# Altium schematic symbol library MCU_ST_STM32G4.SchLib: 165 symbols (part 2 of 4)
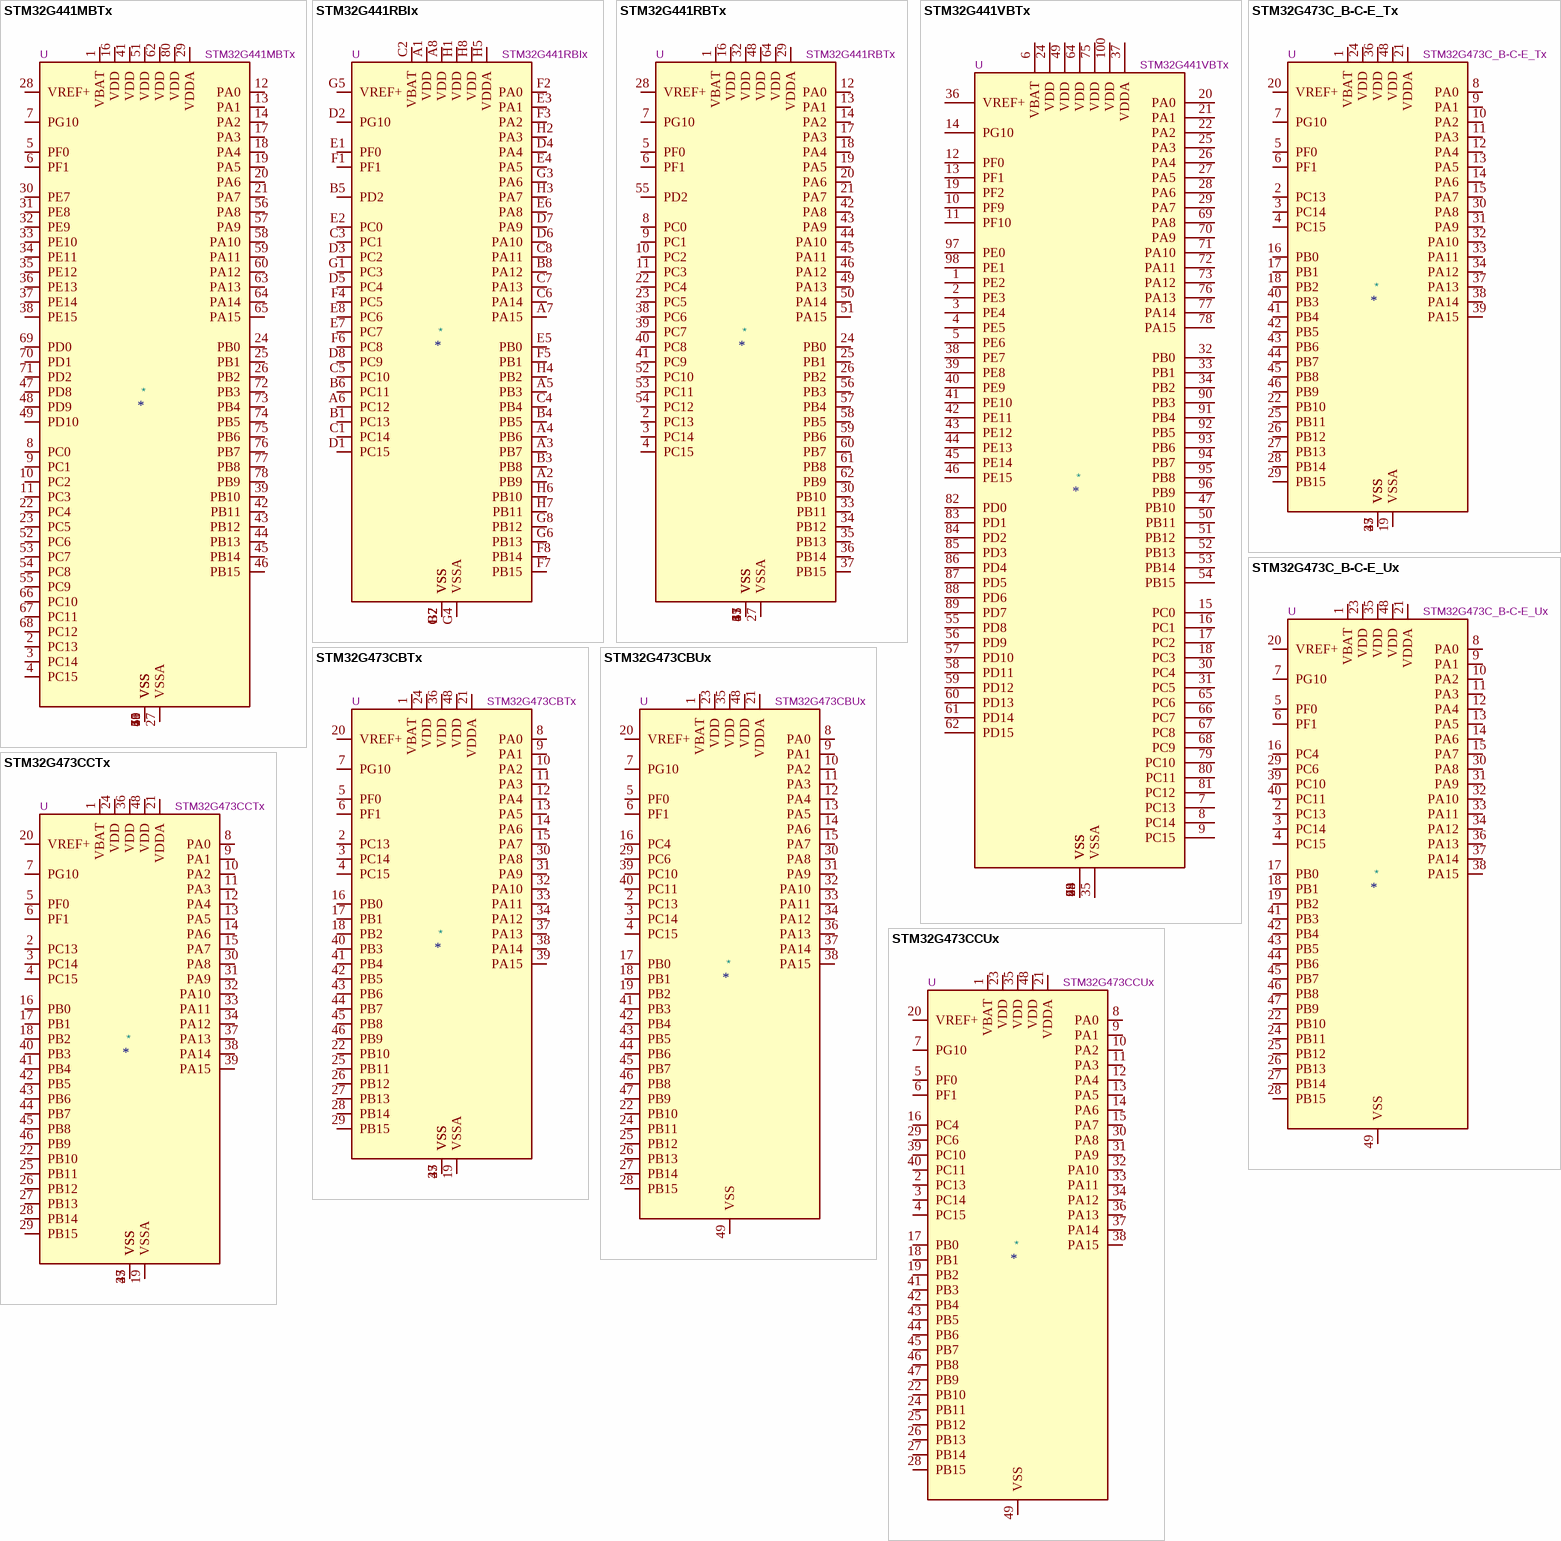
[diagram p23: symbols STM32G441MBTx to STM32G473CCUx]

## STM32G441RBIx
designator *  value STM32G441RBIx  Reference: U
STMicroelectronics Arm Cortex-M4 MCU, 128KB flash, 32KB RAM, 170 MHz, 1.71-3.6V, 52 GPIO, UFBGA64; ki_keywords: Arm Cortex-M4 STM32G4 STM32G4x1; ki_fp_filters: UFBGA*5x5mm*Layout8x8*P0.5mm*; Footprint: Package_BGA:UFBGA-64_5x5mm_Layout8x8_P0.5mm; Datasheet: https://www.st.com/resource/en/datasheet/stm32g441rb.pdf; Description_: STMicroelectronics Arm Cortex-M4 MCU, 128KB flash, 32KB RAM, 170 MHz, 1.71-3.6V, 52 GPIO, UFBGA64
pins: A1 VDD, A2 PB9, A3 PB7, A4 PB6, A5 PB3, A6 PC12, A7 PA15, A8 VDD, B1 PC13, B2 VSS, B3 PB8, B4 PB5, B5 PD2, B6 PC11, B7 VSS, B8 PA12, C1 PC14, C2 VBAT, C3 PC1, C4 PB4, C5 PC10, C6 PA14, C7 PA13, C8 PA11, D1 PC15, D2 PG10, D3 PC2, D4 PA4, D5 PC4, D6 PA10, D7 PA9, D8 PC9, E1 PF0, E2 PC0, E3 PA1, E4 PA5, E5 PB0, E6 PA8, E7 PC7, E8 PC6, F1 PF1, F2 PA0, F3 PA2, F4 PC5, F5 PB1, F6 PC8, F7 PB15, F8 PB14, G1 PC3, G2 VSS, G3 PA6, G4 VSSA, G5 VREF+, G6 PB13, G7 VSS, G8 PB12, H1 VDD, H2 PA3, H3 PA7, H4 PB2, H5 VDDA, H6 PB10, H7 PB11, H8 VDD

## STM32G441RBTx
designator *  value STM32G441RBTx  Reference: U
STMicroelectronics Arm Cortex-M4 MCU, 128KB flash, 32KB RAM, 170 MHz, 1.71-3.6V, 52 GPIO, LQFP64; ki_keywords: Arm Cortex-M4 STM32G4 STM32G4x1; ki_fp_filters: LQFP*10x10mm*P0.5mm*; Footprint: Package_QFP:LQFP-64_10x10mm_P0.5mm; Datasheet: https://www.st.com/resource/en/datasheet/stm32g441rb.pdf; Description_: STMicroelectronics Arm Cortex-M4 MCU, 128KB flash, 32KB RAM, 170 MHz, 1.71-3.6V, 52 GPIO, LQFP64
pins: 1 VBAT, 2 PC13, 3 PC14, 4 PC15, 5 PF0, 6 PF1, 7 PG10, 8 PC0, 9 PC1, 10 PC2, 11 PC3, 12 PA0, 13 PA1, 14 PA2, 15 VSS, 16 VDD, 17 PA3, 18 PA4, 19 PA5, 20 PA6, 21 PA7, 22 PC4, 23 PC5, 24 PB0, 25 PB1, 26 PB2, 27 VSSA, 28 VREF+, 29 VDDA, 30 PB10, 31 VSS, 32 VDD, 33 PB11, 34 PB12, 35 PB13, 36 PB14, 37 PB15, 38 PC6, 39 PC7, 40 PC8, 41 PC9, 42 PA8, 43 PA9, 44 PA10, 45 PA11, 46 PA12, 47 VSS, 48 VDD, 49 PA13, 50 PA14, 51 PA15, 52 PC10, 53 PC11, 54 PC12, 55 PD2, 56 PB3, 57 PB4, 58 PB5, 59 PB6, 60 PB7, 61 PB8, 62 PB9, 63 VSS, 64 VDD

## STM32G441VBTx
designator *  value STM32G441VBTx  Reference: U
STMicroelectronics Arm Cortex-M4 MCU, 128KB flash, 32KB RAM, 170 MHz, 1.71-3.6V, 86 GPIO, LQFP100; ki_keywords: Arm Cortex-M4 STM32G4 STM32G4x1; ki_fp_filters: LQFP*14x14mm*P0.5mm*; Footprint: Package_QFP:LQFP-100_14x14mm_P0.5mm; Datasheet: https://www.st.com/resource/en/datasheet/stm32g441vb.pdf; Description_: STMicroelectronics Arm Cortex-M4 MCU, 128KB flash, 32KB RAM, 170 MHz, 1.71-3.6V, 86 GPIO, LQFP100
pins: 1 PE2, 2 PE3, 3 PE4, 4 PE5, 5 PE6, 6 VBAT, 7 PC13, 8 PC14, 9 PC15, 10 PF9, 11 PF10, 12 PF0, 13 PF1, 14 PG10, 15 PC0, 16 PC1, 17 PC2, 18 PC3, 19 PF2, 20 PA0, 21 PA1, 22 PA2, 23 VSS, 24 VDD, 25 PA3, 26 PA4, 27 PA5, 28 PA6, 29 PA7, 30 PC4, 31 PC5, 32 PB0, 33 PB1, 34 PB2, 35 VSSA, 36 VREF+, 37 VDDA, 38 PE7, 39 PE8, 40 PE9, 41 PE10, 42 PE11, 43 PE12, 44 PE13, 45 PE14, 46 PE15, 47 PB10, 48 VSS, 49 VDD, 50 PB11, 51 PB12, 52 PB13, 53 PB14, 54 PB15, 55 PD8, 56 PD9, 57 PD10, 58 PD11, 59 PD12, 60 PD13, 61 PD14, 62 PD15, 63 VSS, 64 VDD, 65 PC6, 66 PC7, 67 PC8, 68 PC9, 69 PA8, 70 PA9, 71 PA10, 72 PA11, 73 PA12, 74 VSS, 75 VDD, 76 PA13, 77 PA14, 78 PA15, 79 PC10, 80 PC11, 81 PC12, 82 PD0, 83 PD1, 84 PD2, 85 PD3, 86 PD4, 87 PD5, 88 PD6, 89 PD7, 90 PB3, 91 PB4, 92 PB5, 93 PB6, 94 PB7, 95 PB8, 96 PB9, 97 PE0, 98 PE1, 99 VSS, 100 VDD

## STM32G473C_B-C-E_Tx
designator *  value STM32G473C_B-C-E_Tx  Reference: U
STMicroelectronics Arm Cortex-M4 MCU, 128-512KB flash, 128KB RAM, 170 MHz, 1.71-3.6V, 38 GPIO, LQFP48; ki_keywords: Arm Cortex-M4 STM32G4 STM32G4x3; ki_fp_filters: LQFP*7x7mm*P0.5mm*; Footprint: Package_QFP:LQFP-48_7x7mm_P0.5mm; Datasheet: https://www.st.com/resource/en/datasheet/stm32g473cb.pdf; Description_: STMicroelectronics Arm Cortex-M4 MCU, 128-512KB flash, 128KB RAM, 170 MHz, 1.71-3.6V, 38 GPIO, LQFP48
pins: 1 VBAT, 2 PC13, 3 PC14, 4 PC15, 5 PF0, 6 PF1, 7 PG10, 8 PA0, 9 PA1, 10 PA2, 11 PA3, 12 PA4, 13 PA5, 14 PA6, 15 PA7, 16 PB0, 17 PB1, 18 PB2, 19 VSSA, 20 VREF+, 21 VDDA, 22 PB10, 23 VSS, 24 VDD, 25 PB11, 26 PB12, 27 PB13, 28 PB14, 29 PB15, 30 PA8, 31 PA9, 32 PA10, 33 PA11, 34 PA12, 35 VSS, 36 VDD, 37 PA13, 38 PA14, 39 PA15, 40 PB3, 41 PB4, 42 PB5, 43 PB6, 44 PB7, 45 PB8, 46 PB9, 47 VSS, 48 VDD

## STM32G473C_B-C-E_Ux
designator *  value STM32G473C_B-C-E_Ux  Reference: U
STMicroelectronics Arm Cortex-M4 MCU, 128-512KB flash, 128KB RAM, 170 MHz, 1.71-3.6V, 42 GPIO, UFQFPN48; ki_keywords: Arm Cortex-M4 STM32G4 STM32G4x3; ki_fp_filters: QFN*1EP*7x7mm*P0.5mm*; Footprint: Package_DFN_QFN:QFN-48-1EP_7x7mm_P0.5mm_EP5.6x5.6mm; Datasheet: https://www.st.com/resource/en/datasheet/stm32g473cb.pdf; Description_: STMicroelectronics Arm Cortex-M4 MCU, 128-512KB flash, 128KB RAM, 170 MHz, 1.71-3.6V, 42 GPIO, UFQFPN48
pins: 1 VBAT, 2 PC13, 3 PC14, 4 PC15, 5 PF0, 6 PF1, 7 PG10, 8 PA0, 9 PA1, 10 PA2, 11 PA3, 12 PA4, 13 PA5, 14 PA6, 15 PA7, 16 PC4, 17 PB0, 18 PB1, 19 PB2, 20 VREF+, 21 VDDA, 22 PB10, 23 VDD, 24 PB11, 25 PB12, 26 PB13, 27 PB14, 28 PB15, 29 PC6, 30 PA8, 31 PA9, 32 PA10, 33 PA11, 34 PA12, 35 VDD, 36 PA13, 37 PA14, 38 PA15, 39 PC10, 40 PC11, 41 PB3, 42 PB4, 43 PB5, 44 PB6, 45 PB7, 46 PB8, 47 PB9, 48 VDD, 49 VSS

## STM32G473CBTx
designator *  value STM32G473CBTx  Reference: U
STMicroelectronics Arm Cortex-M4 MCU, 128KB flash, 128KB RAM, 170 MHz, 1.71-3.6V, 38 GPIO, LQFP48; ki_keywords: Arm Cortex-M4 STM32G4 STM32G4x3; ki_fp_filters: LQFP*7x7mm*P0.5mm*; Footprint: Package_QFP:LQFP-48_7x7mm_P0.5mm; Datasheet: https://www.st.com/resource/en/datasheet/stm32g473cb.pdf; Description_: STMicroelectronics Arm Cortex-M4 MCU, 128KB flash, 128KB RAM, 170 MHz, 1.71-3.6V, 38 GPIO, LQFP48
pins: 1 VBAT, 2 PC13, 3 PC14, 4 PC15, 5 PF0, 6 PF1, 7 PG10, 8 PA0, 9 PA1, 10 PA2, 11 PA3, 12 PA4, 13 PA5, 14 PA6, 15 PA7, 16 PB0, 17 PB1, 18 PB2, 19 VSSA, 20 VREF+, 21 VDDA, 22 PB10, 23 VSS, 24 VDD, 25 PB11, 26 PB12, 27 PB13, 28 PB14, 29 PB15, 30 PA8, 31 PA9, 32 PA10, 33 PA11, 34 PA12, 35 VSS, 36 VDD, 37 PA13, 38 PA14, 39 PA15, 40 PB3, 41 PB4, 42 PB5, 43 PB6, 44 PB7, 45 PB8, 46 PB9, 47 VSS, 48 VDD

## STM32G473CBUx
designator *  value STM32G473CBUx  Reference: U
STMicroelectronics Arm Cortex-M4 MCU, 128KB flash, 128KB RAM, 170 MHz, 1.71-3.6V, 42 GPIO, UFQFPN48; ki_keywords: Arm Cortex-M4 STM32G4 STM32G4x3; ki_fp_filters: QFN*1EP*7x7mm*P0.5mm*; Footprint: Package_DFN_QFN:QFN-48-1EP_7x7mm_P0.5mm_EP5.6x5.6mm; Datasheet: https://www.st.com/resource/en/datasheet/stm32g473cb.pdf; Description_: STMicroelectronics Arm Cortex-M4 MCU, 128KB flash, 128KB RAM, 170 MHz, 1.71-3.6V, 42 GPIO, UFQFPN48
pins: 1 VBAT, 2 PC13, 3 PC14, 4 PC15, 5 PF0, 6 PF1, 7 PG10, 8 PA0, 9 PA1, 10 PA2, 11 PA3, 12 PA4, 13 PA5, 14 PA6, 15 PA7, 16 PC4, 17 PB0, 18 PB1, 19 PB2, 20 VREF+, 21 VDDA, 22 PB10, 23 VDD, 24 PB11, 25 PB12, 26 PB13, 27 PB14, 28 PB15, 29 PC6, 30 PA8, 31 PA9, 32 PA10, 33 PA11, 34 PA12, 35 VDD, 36 PA13, 37 PA14, 38 PA15, 39 PC10, 40 PC11, 41 PB3, 42 PB4, 43 PB5, 44 PB6, 45 PB7, 46 PB8, 47 PB9, 48 VDD, 49 VSS

## STM32G473CCTx
designator *  value STM32G473CCTx  Reference: U
STMicroelectronics Arm Cortex-M4 MCU, 256KB flash, 128KB RAM, 170 MHz, 1.71-3.6V, 38 GPIO, LQFP48; ki_keywords: Arm Cortex-M4 STM32G4 STM32G4x3; ki_fp_filters: LQFP*7x7mm*P0.5mm*; Footprint: Package_QFP:LQFP-48_7x7mm_P0.5mm; Datasheet: https://www.st.com/resource/en/datasheet/stm32g473cc.pdf; Description_: STMicroelectronics Arm Cortex-M4 MCU, 256KB flash, 128KB RAM, 170 MHz, 1.71-3.6V, 38 GPIO, LQFP48
pins: 1 VBAT, 2 PC13, 3 PC14, 4 PC15, 5 PF0, 6 PF1, 7 PG10, 8 PA0, 9 PA1, 10 PA2, 11 PA3, 12 PA4, 13 PA5, 14 PA6, 15 PA7, 16 PB0, 17 PB1, 18 PB2, 19 VSSA, 20 VREF+, 21 VDDA, 22 PB10, 23 VSS, 24 VDD, 25 PB11, 26 PB12, 27 PB13, 28 PB14, 29 PB15, 30 PA8, 31 PA9, 32 PA10, 33 PA11, 34 PA12, 35 VSS, 36 VDD, 37 PA13, 38 PA14, 39 PA15, 40 PB3, 41 PB4, 42 PB5, 43 PB6, 44 PB7, 45 PB8, 46 PB9, 47 VSS, 48 VDD

## STM32G473CCUx
designator *  value STM32G473CCUx  Reference: U
STMicroelectronics Arm Cortex-M4 MCU, 256KB flash, 128KB RAM, 170 MHz, 1.71-3.6V, 42 GPIO, UFQFPN48; ki_keywords: Arm Cortex-M4 STM32G4 STM32G4x3; ki_fp_filters: QFN*1EP*7x7mm*P0.5mm*; Footprint: Package_DFN_QFN:QFN-48-1EP_7x7mm_P0.5mm_EP5.6x5.6mm; Datasheet: https://www.st.com/resource/en/datasheet/stm32g473cc.pdf; Description_: STMicroelectronics Arm Cortex-M4 MCU, 256KB flash, 128KB RAM, 170 MHz, 1.71-3.6V, 42 GPIO, UFQFPN48
pins: 1 VBAT, 2 PC13, 3 PC14, 4 PC15, 5 PF0, 6 PF1, 7 PG10, 8 PA0, 9 PA1, 10 PA2, 11 PA3, 12 PA4, 13 PA5, 14 PA6, 15 PA7, 16 PC4, 17 PB0, 18 PB1, 19 PB2, 20 VREF+, 21 VDDA, 22 PB10, 23 VDD, 24 PB11, 25 PB12, 26 PB13, 27 PB14, 28 PB15, 29 PC6, 30 PA8, 31 PA9, 32 PA10, 33 PA11, 34 PA12, 35 VDD, 36 PA13, 37 PA14, 38 PA15, 39 PC10, 40 PC11, 41 PB3, 42 PB4, 43 PB5, 44 PB6, 45 PB7, 46 PB8, 47 PB9, 48 VDD, 49 VSS

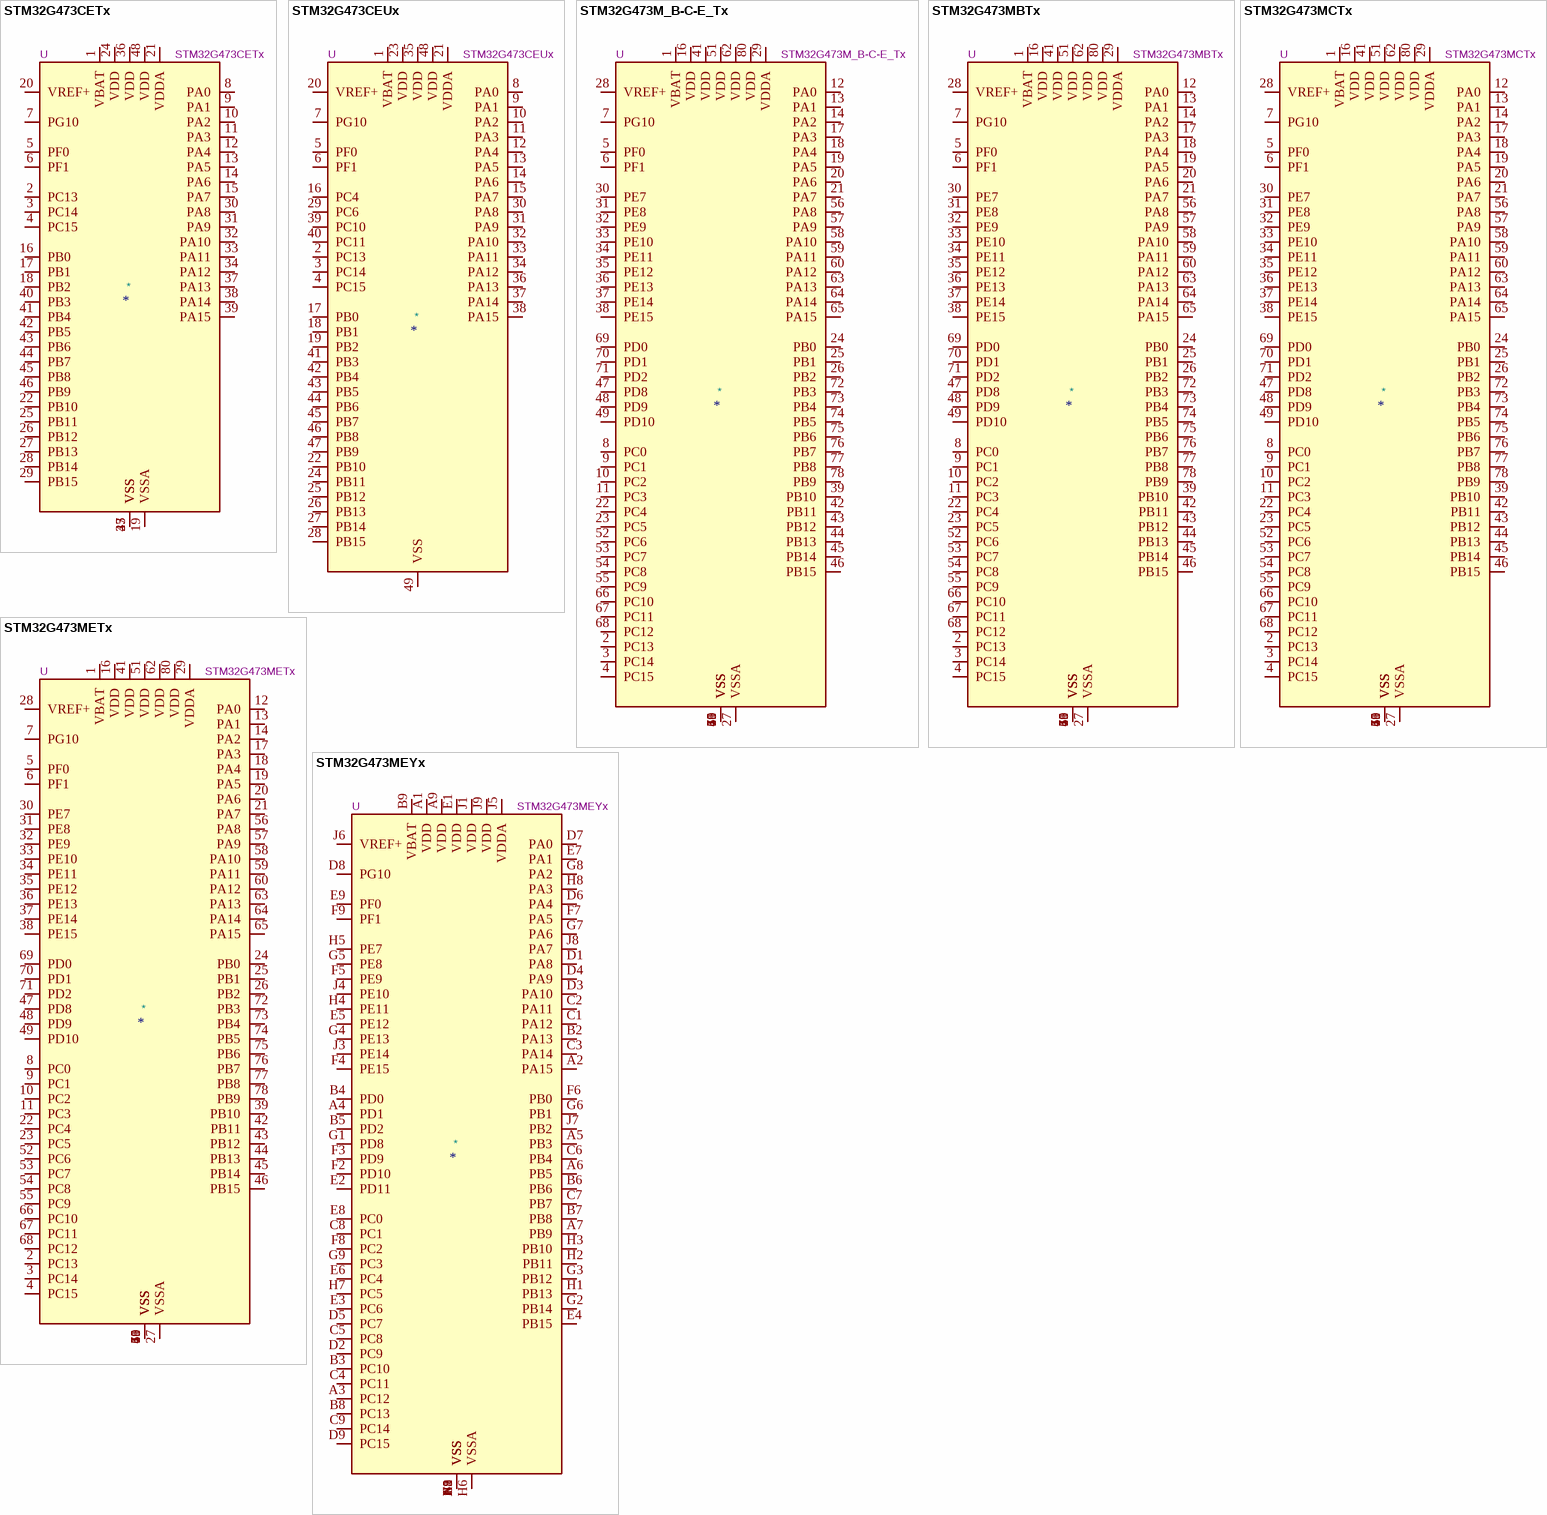
[diagram p6: symbols STM32G473CETx to STM32G473MEYx]

## STM32G473CETx
designator *  value STM32G473CETx  Reference: U
STMicroelectronics Arm Cortex-M4 MCU, 512KB flash, 128KB RAM, 170 MHz, 1.71-3.6V, 38 GPIO, LQFP48; ki_keywords: Arm Cortex-M4 STM32G4 STM32G4x3; ki_fp_filters: LQFP*7x7mm*P0.5mm*; Footprint: Package_QFP:LQFP-48_7x7mm_P0.5mm; Datasheet: https://www.st.com/resource/en/datasheet/stm32g473ce.pdf; Description_: STMicroelectronics Arm Cortex-M4 MCU, 512KB flash, 128KB RAM, 170 MHz, 1.71-3.6V, 38 GPIO, LQFP48
pins: 1 VBAT, 2 PC13, 3 PC14, 4 PC15, 5 PF0, 6 PF1, 7 PG10, 8 PA0, 9 PA1, 10 PA2, 11 PA3, 12 PA4, 13 PA5, 14 PA6, 15 PA7, 16 PB0, 17 PB1, 18 PB2, 19 VSSA, 20 VREF+, 21 VDDA, 22 PB10, 23 VSS, 24 VDD, 25 PB11, 26 PB12, 27 PB13, 28 PB14, 29 PB15, 30 PA8, 31 PA9, 32 PA10, 33 PA11, 34 PA12, 35 VSS, 36 VDD, 37 PA13, 38 PA14, 39 PA15, 40 PB3, 41 PB4, 42 PB5, 43 PB6, 44 PB7, 45 PB8, 46 PB9, 47 VSS, 48 VDD

## STM32G473CEUx
designator *  value STM32G473CEUx  Reference: U
STMicroelectronics Arm Cortex-M4 MCU, 512KB flash, 128KB RAM, 170 MHz, 1.71-3.6V, 42 GPIO, UFQFPN48; ki_keywords: Arm Cortex-M4 STM32G4 STM32G4x3; ki_fp_filters: QFN*1EP*7x7mm*P0.5mm*; Footprint: Package_DFN_QFN:QFN-48-1EP_7x7mm_P0.5mm_EP5.6x5.6mm; Datasheet: https://www.st.com/resource/en/datasheet/stm32g473ce.pdf; Description_: STMicroelectronics Arm Cortex-M4 MCU, 512KB flash, 128KB RAM, 170 MHz, 1.71-3.6V, 42 GPIO, UFQFPN48
pins: 1 VBAT, 2 PC13, 3 PC14, 4 PC15, 5 PF0, 6 PF1, 7 PG10, 8 PA0, 9 PA1, 10 PA2, 11 PA3, 12 PA4, 13 PA5, 14 PA6, 15 PA7, 16 PC4, 17 PB0, 18 PB1, 19 PB2, 20 VREF+, 21 VDDA, 22 PB10, 23 VDD, 24 PB11, 25 PB12, 26 PB13, 27 PB14, 28 PB15, 29 PC6, 30 PA8, 31 PA9, 32 PA10, 33 PA11, 34 PA12, 35 VDD, 36 PA13, 37 PA14, 38 PA15, 39 PC10, 40 PC11, 41 PB3, 42 PB4, 43 PB5, 44 PB6, 45 PB7, 46 PB8, 47 PB9, 48 VDD, 49 VSS

## STM32G473M_B-C-E_Tx
designator *  value STM32G473M_B-C-E_Tx  Reference: U
STMicroelectronics Arm Cortex-M4 MCU, 128-512KB flash, 128KB RAM, 170 MHz, 1.71-3.6V, 66 GPIO, LQFP80; ki_keywords: Arm Cortex-M4 STM32G4 STM32G4x3; ki_fp_filters: LQFP*12x12mm*P0.5mm*; Footprint: Package_QFP:LQFP-80_12x12mm_P0.5mm; Datasheet: https://www.st.com/resource/en/datasheet/stm32g473mb.pdf; Description_: STMicroelectronics Arm Cortex-M4 MCU, 128-512KB flash, 128KB RAM, 170 MHz, 1.71-3.6V, 66 GPIO, LQFP80
pins: 1 VBAT, 2 PC13, 3 PC14, 4 PC15, 5 PF0, 6 PF1, 7 PG10, 8 PC0, 9 PC1, 10 PC2, 11 PC3, 12 PA0, 13 PA1, 14 PA2, 15 VSS, 16 VDD, 17 PA3, 18 PA4, 19 PA5, 20 PA6, 21 PA7, 22 PC4, 23 PC5, 24 PB0, 25 PB1, 26 PB2, 27 VSSA, 28 VREF+, 29 VDDA, 30 PE7, 31 PE8, 32 PE9, 33 PE10, 34 PE11, 35 PE12, 36 PE13, 37 PE14, 38 PE15, 39 PB10, 40 VSS, 41 VDD, 42 PB11, 43 PB12, 44 PB13, 45 PB14, 46 PB15, 47 PD8, 48 PD9, 49 PD10, 50 VSS, 51 VDD, 52 PC6, 53 PC7, 54 PC8, 55 PC9, 56 PA8, 57 PA9, 58 PA10, 59 PA11, 60 PA12, 61 VSS, 62 VDD, 63 PA13, 64 PA14, 65 PA15, 66 PC10, 67 PC11, 68 PC12, 69 PD0, 70 PD1, 71 PD2, 72 PB3, 73 PB4, 74 PB5, 75 PB6, 76 PB7, 77 PB8, 78 PB9, 79 VSS, 80 VDD

## STM32G473MBTx
designator *  value STM32G473MBTx  Reference: U
STMicroelectronics Arm Cortex-M4 MCU, 128KB flash, 128KB RAM, 170 MHz, 1.71-3.6V, 66 GPIO, LQFP80; ki_keywords: Arm Cortex-M4 STM32G4 STM32G4x3; ki_fp_filters: LQFP*12x12mm*P0.5mm*; Footprint: Package_QFP:LQFP-80_12x12mm_P0.5mm; Datasheet: https://www.st.com/resource/en/datasheet/stm32g473mb.pdf; Description_: STMicroelectronics Arm Cortex-M4 MCU, 128KB flash, 128KB RAM, 170 MHz, 1.71-3.6V, 66 GPIO, LQFP80
pins: 1 VBAT, 2 PC13, 3 PC14, 4 PC15, 5 PF0, 6 PF1, 7 PG10, 8 PC0, 9 PC1, 10 PC2, 11 PC3, 12 PA0, 13 PA1, 14 PA2, 15 VSS, 16 VDD, 17 PA3, 18 PA4, 19 PA5, 20 PA6, 21 PA7, 22 PC4, 23 PC5, 24 PB0, 25 PB1, 26 PB2, 27 VSSA, 28 VREF+, 29 VDDA, 30 PE7, 31 PE8, 32 PE9, 33 PE10, 34 PE11, 35 PE12, 36 PE13, 37 PE14, 38 PE15, 39 PB10, 40 VSS, 41 VDD, 42 PB11, 43 PB12, 44 PB13, 45 PB14, 46 PB15, 47 PD8, 48 PD9, 49 PD10, 50 VSS, 51 VDD, 52 PC6, 53 PC7, 54 PC8, 55 PC9, 56 PA8, 57 PA9, 58 PA10, 59 PA11, 60 PA12, 61 VSS, 62 VDD, 63 PA13, 64 PA14, 65 PA15, 66 PC10, 67 PC11, 68 PC12, 69 PD0, 70 PD1, 71 PD2, 72 PB3, 73 PB4, 74 PB5, 75 PB6, 76 PB7, 77 PB8, 78 PB9, 79 VSS, 80 VDD

## STM32G473MCTx
designator *  value STM32G473MCTx  Reference: U
STMicroelectronics Arm Cortex-M4 MCU, 256KB flash, 128KB RAM, 170 MHz, 1.71-3.6V, 66 GPIO, LQFP80; ki_keywords: Arm Cortex-M4 STM32G4 STM32G4x3; ki_fp_filters: LQFP*12x12mm*P0.5mm*; Footprint: Package_QFP:LQFP-80_12x12mm_P0.5mm; Datasheet: https://www.st.com/resource/en/datasheet/stm32g473mc.pdf; Description_: STMicroelectronics Arm Cortex-M4 MCU, 256KB flash, 128KB RAM, 170 MHz, 1.71-3.6V, 66 GPIO, LQFP80
pins: 1 VBAT, 2 PC13, 3 PC14, 4 PC15, 5 PF0, 6 PF1, 7 PG10, 8 PC0, 9 PC1, 10 PC2, 11 PC3, 12 PA0, 13 PA1, 14 PA2, 15 VSS, 16 VDD, 17 PA3, 18 PA4, 19 PA5, 20 PA6, 21 PA7, 22 PC4, 23 PC5, 24 PB0, 25 PB1, 26 PB2, 27 VSSA, 28 VREF+, 29 VDDA, 30 PE7, 31 PE8, 32 PE9, 33 PE10, 34 PE11, 35 PE12, 36 PE13, 37 PE14, 38 PE15, 39 PB10, 40 VSS, 41 VDD, 42 PB11, 43 PB12, 44 PB13, 45 PB14, 46 PB15, 47 PD8, 48 PD9, 49 PD10, 50 VSS, 51 VDD, 52 PC6, 53 PC7, 54 PC8, 55 PC9, 56 PA8, 57 PA9, 58 PA10, 59 PA11, 60 PA12, 61 VSS, 62 VDD, 63 PA13, 64 PA14, 65 PA15, 66 PC10, 67 PC11, 68 PC12, 69 PD0, 70 PD1, 71 PD2, 72 PB3, 73 PB4, 74 PB5, 75 PB6, 76 PB7, 77 PB8, 78 PB9, 79 VSS, 80 VDD

## STM32G473METx
designator *  value STM32G473METx  Reference: U
STMicroelectronics Arm Cortex-M4 MCU, 512KB flash, 128KB RAM, 170 MHz, 1.71-3.6V, 66 GPIO, LQFP80; ki_keywords: Arm Cortex-M4 STM32G4 STM32G4x3; ki_fp_filters: LQFP*12x12mm*P0.5mm*; Footprint: Package_QFP:LQFP-80_12x12mm_P0.5mm; Datasheet: https://www.st.com/resource/en/datasheet/stm32g473me.pdf; Description_: STMicroelectronics Arm Cortex-M4 MCU, 512KB flash, 128KB RAM, 170 MHz, 1.71-3.6V, 66 GPIO, LQFP80
pins: 1 VBAT, 2 PC13, 3 PC14, 4 PC15, 5 PF0, 6 PF1, 7 PG10, 8 PC0, 9 PC1, 10 PC2, 11 PC3, 12 PA0, 13 PA1, 14 PA2, 15 VSS, 16 VDD, 17 PA3, 18 PA4, 19 PA5, 20 PA6, 21 PA7, 22 PC4, 23 PC5, 24 PB0, 25 PB1, 26 PB2, 27 VSSA, 28 VREF+, 29 VDDA, 30 PE7, 31 PE8, 32 PE9, 33 PE10, 34 PE11, 35 PE12, 36 PE13, 37 PE14, 38 PE15, 39 PB10, 40 VSS, 41 VDD, 42 PB11, 43 PB12, 44 PB13, 45 PB14, 46 PB15, 47 PD8, 48 PD9, 49 PD10, 50 VSS, 51 VDD, 52 PC6, 53 PC7, 54 PC8, 55 PC9, 56 PA8, 57 PA9, 58 PA10, 59 PA11, 60 PA12, 61 VSS, 62 VDD, 63 PA13, 64 PA14, 65 PA15, 66 PC10, 67 PC11, 68 PC12, 69 PD0, 70 PD1, 71 PD2, 72 PB3, 73 PB4, 74 PB5, 75 PB6, 76 PB7, 77 PB8, 78 PB9, 79 VSS, 80 VDD

## STM32G473MEYx
designator *  value STM32G473MEYx  Reference: U
STMicroelectronics Arm Cortex-M4 MCU, 512KB flash, 128KB RAM, 170 MHz, 1.71-3.6V, 67 GPIO, WLCSP81; ki_keywords: Arm Cortex-M4 STM32G4 STM32G4x3; ki_fp_filters: ST*WLCSP*4.02x4.27mm*Layout9x9*P0.4mm*; Footprint: Package_CSP:ST_WLCSP-81_4.02x4.27mm_Layout9x9_P0.4mm; Datasheet: https://www.st.com/resource/en/datasheet/stm32g473me.pdf; Description_: STMicroelectronics Arm Cortex-M4 MCU, 512KB flash, 128KB RAM, 170 MHz, 1.71-3.6V, 67 GPIO, WLCSP81
pins: A1 VDD, A2 PA15, A3 PC12, A4 PD1, A5 PB3, A6 PB5, A7 PB9, A8 VSS, A9 VDD, B1 VSS, B2 PA13, B3 PC10, B4 PD0, B5 PD2, B6 PB6, B7 PB8, B8 PC13, B9 VBAT, C1 PA12, C2 PA11, C3 PA14, C4 PC11, C5 PC8, C6 PB4, C7 PB7, C8 PC1, C9 PC14, D1 PA8, D2 PC9, D3 PA10, D4 PA9, D5 PC7, D6 PA4, D7 PA0, D8 PG10, D9 PC15, E1 VDD, E2 PD11, E3 PC6, E4 PB15, E5 PE12, E6 PC4, E7 PA1, E8 PC0, E9 PF0, F1 VSS, F2 PD10, F3 PD9, F4 PE15, F5 PE9, F6 PB0, F7 PA5, F8 PC2, F9 PF1, G1 PD8, G2 PB14, G3 PB12, G4 PE13, G5 PE8, G6 PB1, G7 PA6, G8 PA2, G9 PC3, H1 PB13, H2 PB11, H3 PB10, H4 PE11, H5 PE7, H6 VSSA, H7 PC5, H8 PA3, H9 VSS, J1 VDD, J2 VSS, J3 PE14, J4 PE10, J5 VDDA, J6 VREF+, J7 PB2, J8 PA7, J9 VDD

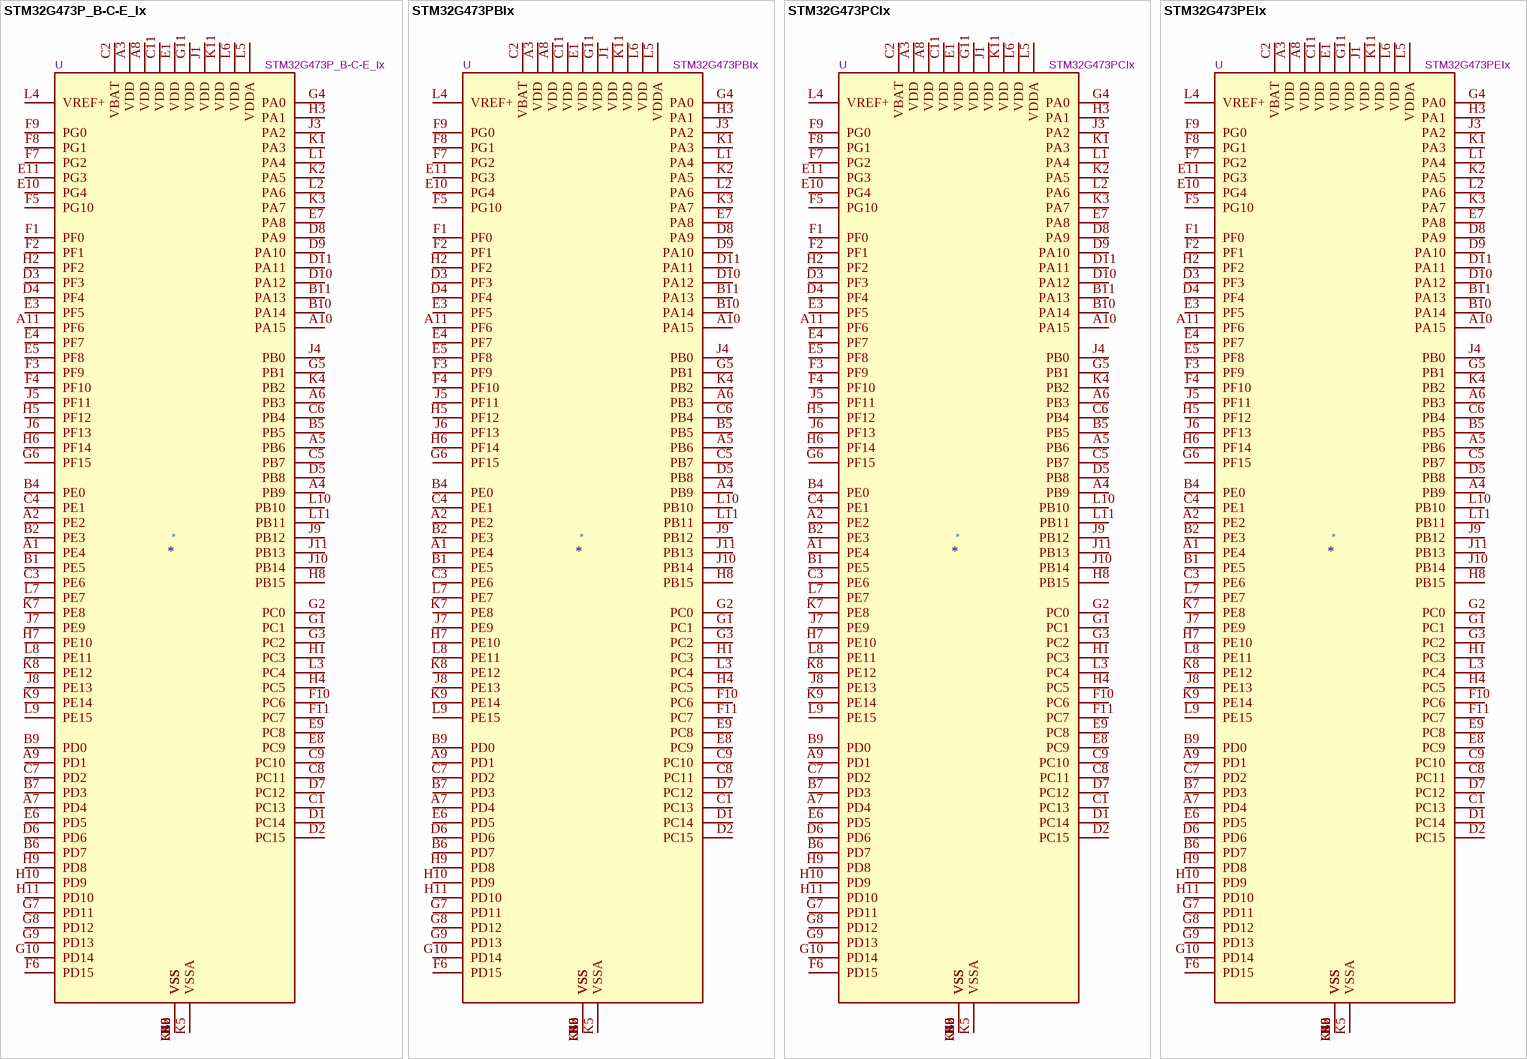
[diagram p7: symbols STM32G473P_B-C-E_Ix to STM32G473PEIx]

## STM32G473P_B-C-E_Ix
designator *  value STM32G473P_B-C-E_Ix  Reference: U
STMicroelectronics Arm Cortex-M4 MCU, 128-512KB flash, 128KB RAM, 170 MHz, 1.71-3.6V, 102 GPIO, UFBGA121; ki_keywords: Arm Cortex-M4 STM32G4 STM32G4x3; ki_fp_filters: ST*UFBGA*6x6mm*Layout11x11*P0.5mm*; Footprint: Package_BGA:ST_UFBGA-121_6x6mm_Layout11x11_P0.5mm; Datasheet: https://www.st.com/resource/en/datasheet/stm32g473pb.pdf; Description_: STMicroelectronics Arm Cortex-M4 MCU, 128-512KB flash, 128KB RAM, 170 MHz, 1.71-3.6V, 102 GPIO, UFBGA121
pins: A1 PE4, A2 PE2, A3 VDD, A4 PB9, A5 PB6, A6 PB3, A7 PD4, A8 VDD, A9 PD1, A10 PA15, A11 PF6, B1 PE5, B2 PE3, B3 VSS, B4 PE0, B5 PB5, B6 PD7, B7 PD3, B8 VSS, B9 PD0, B10 PA14, B11 PA13, C1 PC13, C2 VBAT, C3 PE6, C4 PE1, C5 PB7, C6 PB4, C7 PD2, C8 PC11, C9 PC10, C10 VSS, C11 VDD, D1 PC14, D2 PC15, D3 PF3, D4 PF4, D5 PB8, D6 PD6, D7 PC12, D8 PA9, D9 PA10, D10 PA12, D11 PA11, E1 VDD, E2 VSS, E3 PF5, E4 PF7, E5 PF8, E6 PD5, E7 PA8, E8 PC9, E9 PC8, E10 PG4, E11 PG3, F1 PF0, F2 PF1, F3 PF9, F4 PF10, F5 PG10, F6 PD15, F7 PG2, F8 PG1, F9 PG0, F10 PC6, F11 PC7, G1 PC1, G2 PC0, G3 PC2, G4 PA0, G5 PB1, G6 PF15, G7 PD11, G8 PD12, G9 PD13, G10 PD14, G11 VDD, H1 PC3, H2 PF2, H3 PA1, H4 PC5, H5 PF12, H6 PF14, H7 PE10, H8 PB15, H9 PD8, H10 PD9, H11 PD10, J1 VDD, J2 VSS, J3 PA2, J4 PB0, J5 PF11, J6 PF13, J7 PE9, J8 PE13, J9 PB12, J10 PB14, J11 PB13, K1 PA3, K2 PA5, K3 PA7, K4 PB2, K5 VSSA, K6 VSS, K7 PE8, K8 PE12, K9 PE14, K10 VSS, K11 VDD, L1 PA4, L2 PA6, L3 PC4, L4 VREF+, L5 VDDA, L6 VDD, L7 PE7, L8 PE11, L9 PE15, L10 PB10, L11 PB11

## STM32G473PBIx
designator *  value STM32G473PBIx  Reference: U
STMicroelectronics Arm Cortex-M4 MCU, 128KB flash, 128KB RAM, 170 MHz, 1.71-3.6V, 102 GPIO, UFBGA121; ki_keywords: Arm Cortex-M4 STM32G4 STM32G4x3; ki_fp_filters: ST*UFBGA*6x6mm*Layout11x11*P0.5mm*; Footprint: Package_BGA:ST_UFBGA-121_6x6mm_Layout11x11_P0.5mm; Datasheet: https://www.st.com/resource/en/datasheet/stm32g473pb.pdf; Description_: STMicroelectronics Arm Cortex-M4 MCU, 128KB flash, 128KB RAM, 170 MHz, 1.71-3.6V, 102 GPIO, UFBGA121
pins: A1 PE4, A2 PE2, A3 VDD, A4 PB9, A5 PB6, A6 PB3, A7 PD4, A8 VDD, A9 PD1, A10 PA15, A11 PF6, B1 PE5, B2 PE3, B3 VSS, B4 PE0, B5 PB5, B6 PD7, B7 PD3, B8 VSS, B9 PD0, B10 PA14, B11 PA13, C1 PC13, C2 VBAT, C3 PE6, C4 PE1, C5 PB7, C6 PB4, C7 PD2, C8 PC11, C9 PC10, C10 VSS, C11 VDD, D1 PC14, D2 PC15, D3 PF3, D4 PF4, D5 PB8, D6 PD6, D7 PC12, D8 PA9, D9 PA10, D10 PA12, D11 PA11, E1 VDD, E2 VSS, E3 PF5, E4 PF7, E5 PF8, E6 PD5, E7 PA8, E8 PC9, E9 PC8, E10 PG4, E11 PG3, F1 PF0, F2 PF1, F3 PF9, F4 PF10, F5 PG10, F6 PD15, F7 PG2, F8 PG1, F9 PG0, F10 PC6, F11 PC7, G1 PC1, G2 PC0, G3 PC2, G4 PA0, G5 PB1, G6 PF15, G7 PD11, G8 PD12, G9 PD13, G10 PD14, G11 VDD, H1 PC3, H2 PF2, H3 PA1, H4 PC5, H5 PF12, H6 PF14, H7 PE10, H8 PB15, H9 PD8, H10 PD9, H11 PD10, J1 VDD, J2 VSS, J3 PA2, J4 PB0, J5 PF11, J6 PF13, J7 PE9, J8 PE13, J9 PB12, J10 PB14, J11 PB13, K1 PA3, K2 PA5, K3 PA7, K4 PB2, K5 VSSA, K6 VSS, K7 PE8, K8 PE12, K9 PE14, K10 VSS, K11 VDD, L1 PA4, L2 PA6, L3 PC4, L4 VREF+, L5 VDDA, L6 VDD, L7 PE7, L8 PE11, L9 PE15, L10 PB10, L11 PB11

## STM32G473PCIx
designator *  value STM32G473PCIx  Reference: U
STMicroelectronics Arm Cortex-M4 MCU, 256KB flash, 128KB RAM, 170 MHz, 1.71-3.6V, 102 GPIO, UFBGA121; ki_keywords: Arm Cortex-M4 STM32G4 STM32G4x3; ki_fp_filters: ST*UFBGA*6x6mm*Layout11x11*P0.5mm*; Footprint: Package_BGA:ST_UFBGA-121_6x6mm_Layout11x11_P0.5mm; Datasheet: https://www.st.com/resource/en/datasheet/stm32g473pc.pdf; Description_: STMicroelectronics Arm Cortex-M4 MCU, 256KB flash, 128KB RAM, 170 MHz, 1.71-3.6V, 102 GPIO, UFBGA121
pins: A1 PE4, A2 PE2, A3 VDD, A4 PB9, A5 PB6, A6 PB3, A7 PD4, A8 VDD, A9 PD1, A10 PA15, A11 PF6, B1 PE5, B2 PE3, B3 VSS, B4 PE0, B5 PB5, B6 PD7, B7 PD3, B8 VSS, B9 PD0, B10 PA14, B11 PA13, C1 PC13, C2 VBAT, C3 PE6, C4 PE1, C5 PB7, C6 PB4, C7 PD2, C8 PC11, C9 PC10, C10 VSS, C11 VDD, D1 PC14, D2 PC15, D3 PF3, D4 PF4, D5 PB8, D6 PD6, D7 PC12, D8 PA9, D9 PA10, D10 PA12, D11 PA11, E1 VDD, E2 VSS, E3 PF5, E4 PF7, E5 PF8, E6 PD5, E7 PA8, E8 PC9, E9 PC8, E10 PG4, E11 PG3, F1 PF0, F2 PF1, F3 PF9, F4 PF10, F5 PG10, F6 PD15, F7 PG2, F8 PG1, F9 PG0, F10 PC6, F11 PC7, G1 PC1, G2 PC0, G3 PC2, G4 PA0, G5 PB1, G6 PF15, G7 PD11, G8 PD12, G9 PD13, G10 PD14, G11 VDD, H1 PC3, H2 PF2, H3 PA1, H4 PC5, H5 PF12, H6 PF14, H7 PE10, H8 PB15, H9 PD8, H10 PD9, H11 PD10, J1 VDD, J2 VSS, J3 PA2, J4 PB0, J5 PF11, J6 PF13, J7 PE9, J8 PE13, J9 PB12, J10 PB14, J11 PB13, K1 PA3, K2 PA5, K3 PA7, K4 PB2, K5 VSSA, K6 VSS, K7 PE8, K8 PE12, K9 PE14, K10 VSS, K11 VDD, L1 PA4, L2 PA6, L3 PC4, L4 VREF+, L5 VDDA, L6 VDD, L7 PE7, L8 PE11, L9 PE15, L10 PB10, L11 PB11

## STM32G473PEIx
designator *  value STM32G473PEIx  Reference: U
STMicroelectronics Arm Cortex-M4 MCU, 512KB flash, 128KB RAM, 170 MHz, 1.71-3.6V, 102 GPIO, UFBGA121; ki_keywords: Arm Cortex-M4 STM32G4 STM32G4x3; ki_fp_filters: ST*UFBGA*6x6mm*Layout11x11*P0.5mm*; Footprint: Package_BGA:ST_UFBGA-121_6x6mm_Layout11x11_P0.5mm; Datasheet: https://www.st.com/resource/en/datasheet/stm32g473pe.pdf; Description_: STMicroelectronics Arm Cortex-M4 MCU, 512KB flash, 128KB RAM, 170 MHz, 1.71-3.6V, 102 GPIO, UFBGA121
pins: A1 PE4, A2 PE2, A3 VDD, A4 PB9, A5 PB6, A6 PB3, A7 PD4, A8 VDD, A9 PD1, A10 PA15, A11 PF6, B1 PE5, B2 PE3, B3 VSS, B4 PE0, B5 PB5, B6 PD7, B7 PD3, B8 VSS, B9 PD0, B10 PA14, B11 PA13, C1 PC13, C2 VBAT, C3 PE6, C4 PE1, C5 PB7, C6 PB4, C7 PD2, C8 PC11, C9 PC10, C10 VSS, C11 VDD, D1 PC14, D2 PC15, D3 PF3, D4 PF4, D5 PB8, D6 PD6, D7 PC12, D8 PA9, D9 PA10, D10 PA12, D11 PA11, E1 VDD, E2 VSS, E3 PF5, E4 PF7, E5 PF8, E6 PD5, E7 PA8, E8 PC9, E9 PC8, E10 PG4, E11 PG3, F1 PF0, F2 PF1, F3 PF9, F4 PF10, F5 PG10, F6 PD15, F7 PG2, F8 PG1, F9 PG0, F10 PC6, F11 PC7, G1 PC1, G2 PC0, G3 PC2, G4 PA0, G5 PB1, G6 PF15, G7 PD11, G8 PD12, G9 PD13, G10 PD14, G11 VDD, H1 PC3, H2 PF2, H3 PA1, H4 PC5, H5 PF12, H6 PF14, H7 PE10, H8 PB15, H9 PD8, H10 PD9, H11 PD10, J1 VDD, J2 VSS, J3 PA2, J4 PB0, J5 PF11, J6 PF13, J7 PE9, J8 PE13, J9 PB12, J10 PB14, J11 PB13, K1 PA3, K2 PA5, K3 PA7, K4 PB2, K5 VSSA, K6 VSS, K7 PE8, K8 PE12, K9 PE14, K10 VSS, K11 VDD, L1 PA4, L2 PA6, L3 PC4, L4 VREF+, L5 VDDA, L6 VDD, L7 PE7, L8 PE11, L9 PE15, L10 PB10, L11 PB11

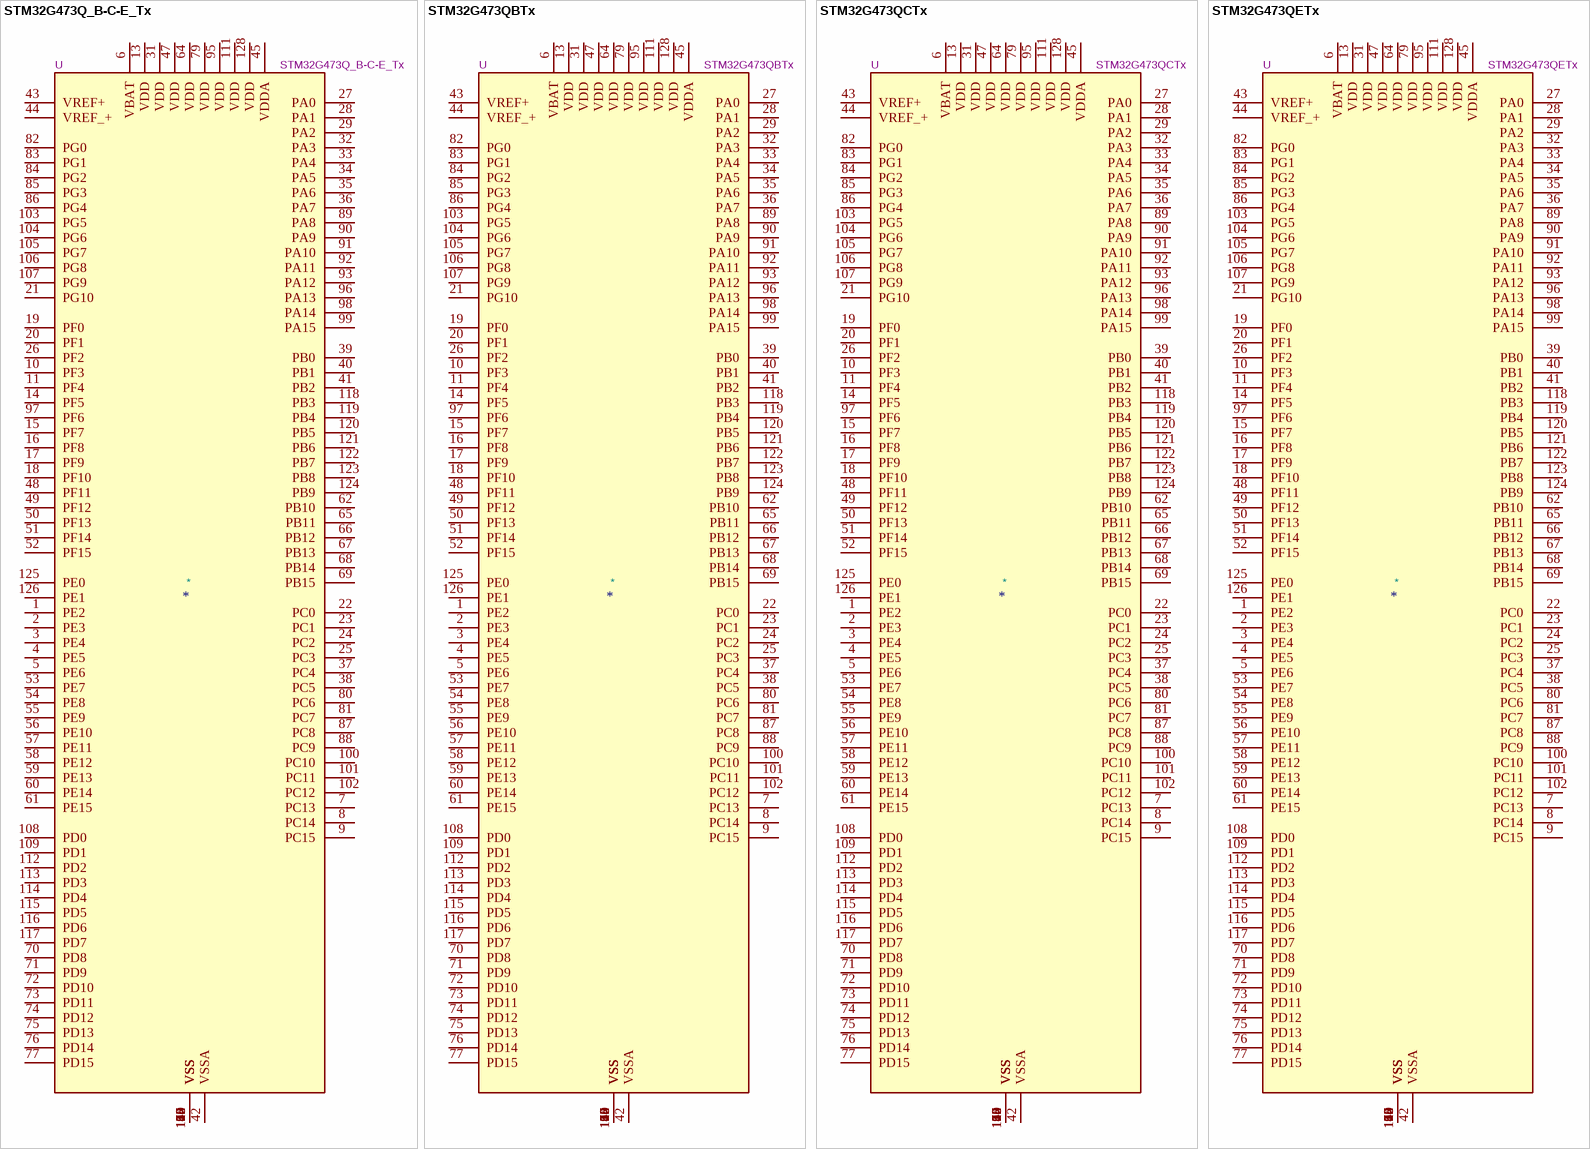
[diagram p8: symbols STM32G473Q_B-C-E_Tx to STM32G473QETx]

## STM32G473Q_B-C-E_Tx
designator *  value STM32G473Q_B-C-E_Tx  Reference: U
STMicroelectronics Arm Cortex-M4 MCU, 128-512KB flash, 128KB RAM, 170 MHz, 1.71-3.6V, 107 GPIO, LQFP128; ki_keywords: Arm Cortex-M4 STM32G4 STM32G4x3; ki_fp_filters: LQFP*14x14mm*P0.4mm*; Footprint: Package_QFP:LQFP-128_14x14mm_P0.4mm; Datasheet: https://www.st.com/resource/en/datasheet/stm32g473qb.pdf; Description_: STMicroelectronics Arm Cortex-M4 MCU, 128-512KB flash, 128KB RAM, 170 MHz, 1.71-3.6V, 107 GPIO, LQFP128
pins: 1 PE2, 2 PE3, 3 PE4, 4 PE5, 5 PE6, 6 VBAT, 7 PC13, 8 PC14, 9 PC15, 10 PF3, 11 PF4, 12 VSS, 13 VDD, 14 PF5, 15 PF7, 16 PF8, 17 PF9, 18 PF10, 19 PF0, 20 PF1, 21 PG10, 22 PC0, 23 PC1, 24 PC2, 25 PC3, 26 PF2, 27 PA0, 28 PA1, 29 PA2, 30 VSS, 31 VDD, 32 PA3, 33 PA4, 34 PA5, 35 PA6, 36 PA7, 37 PC4, 38 PC5, 39 PB0, 40 PB1, 41 PB2, 42 VSSA, 43 VREF+, 44 VREF_+, 45 VDDA, 46 VSS, 47 VDD, 48 PF11, 49 PF12, 50 PF13, 51 PF14, 52 PF15, 53 PE7, 54 PE8, 55 PE9, 56 PE10, 57 PE11, 58 PE12, 59 PE13, 60 PE14, 61 PE15, 62 PB10, 63 VSS, 64 VDD, 65 PB11, 66 PB12, 67 PB13, 68 PB14, 69 PB15, 70 PD8, 71 PD9, 72 PD10, 73 PD11, 74 PD12, 75 PD13, 76 PD14, 77 PD15, 78 VSS, 79 VDD, 80 PC6, 81 PC7, 82 PG0, 83 PG1, 84 PG2, 85 PG3, 86 PG4, 87 PC8, 88 PC9, 89 PA8, 90 PA9, 91 PA10, 92 PA11, 93 PA12, 94 VSS, 95 VDD, 96 PA13, 97 PF6, 98 PA14, 99 PA15, 100 PC10, 101 PC11, 102 PC12, 103 PG5, 104 PG6, 105 PG7, 106 PG8, 107 PG9, 108 PD0, 109 PD1, 110 VSS, 111 VDD, 112 PD2, 113 PD3, 114 PD4, 115 PD5, 116 PD6, 117 PD7, 118 PB3, 119 PB4, 120 PB5, 121 PB6, 122 PB7, 123 PB8, 124 PB9, 125 PE0, 126 PE1, 127 VSS, 128 VDD

## STM32G473QBTx
designator *  value STM32G473QBTx  Reference: U
STMicroelectronics Arm Cortex-M4 MCU, 128KB flash, 128KB RAM, 170 MHz, 1.71-3.6V, 107 GPIO, LQFP128; ki_keywords: Arm Cortex-M4 STM32G4 STM32G4x3; ki_fp_filters: LQFP*14x14mm*P0.4mm*; Footprint: Package_QFP:LQFP-128_14x14mm_P0.4mm; Datasheet: https://www.st.com/resource/en/datasheet/stm32g473qb.pdf; Description_: STMicroelectronics Arm Cortex-M4 MCU, 128KB flash, 128KB RAM, 170 MHz, 1.71-3.6V, 107 GPIO, LQFP128
pins: 1 PE2, 2 PE3, 3 PE4, 4 PE5, 5 PE6, 6 VBAT, 7 PC13, 8 PC14, 9 PC15, 10 PF3, 11 PF4, 12 VSS, 13 VDD, 14 PF5, 15 PF7, 16 PF8, 17 PF9, 18 PF10, 19 PF0, 20 PF1, 21 PG10, 22 PC0, 23 PC1, 24 PC2, 25 PC3, 26 PF2, 27 PA0, 28 PA1, 29 PA2, 30 VSS, 31 VDD, 32 PA3, 33 PA4, 34 PA5, 35 PA6, 36 PA7, 37 PC4, 38 PC5, 39 PB0, 40 PB1, 41 PB2, 42 VSSA, 43 VREF+, 44 VREF_+, 45 VDDA, 46 VSS, 47 VDD, 48 PF11, 49 PF12, 50 PF13, 51 PF14, 52 PF15, 53 PE7, 54 PE8, 55 PE9, 56 PE10, 57 PE11, 58 PE12, 59 PE13, 60 PE14, 61 PE15, 62 PB10, 63 VSS, 64 VDD, 65 PB11, 66 PB12, 67 PB13, 68 PB14, 69 PB15, 70 PD8, 71 PD9, 72 PD10, 73 PD11, 74 PD12, 75 PD13, 76 PD14, 77 PD15, 78 VSS, 79 VDD, 80 PC6, 81 PC7, 82 PG0, 83 PG1, 84 PG2, 85 PG3, 86 PG4, 87 PC8, 88 PC9, 89 PA8, 90 PA9, 91 PA10, 92 PA11, 93 PA12, 94 VSS, 95 VDD, 96 PA13, 97 PF6, 98 PA14, 99 PA15, 100 PC10, 101 PC11, 102 PC12, 103 PG5, 104 PG6, 105 PG7, 106 PG8, 107 PG9, 108 PD0, 109 PD1, 110 VSS, 111 VDD, 112 PD2, 113 PD3, 114 PD4, 115 PD5, 116 PD6, 117 PD7, 118 PB3, 119 PB4, 120 PB5, 121 PB6, 122 PB7, 123 PB8, 124 PB9, 125 PE0, 126 PE1, 127 VSS, 128 VDD

## STM32G473QCTx
designator *  value STM32G473QCTx  Reference: U
STMicroelectronics Arm Cortex-M4 MCU, 256KB flash, 128KB RAM, 170 MHz, 1.71-3.6V, 107 GPIO, LQFP128; ki_keywords: Arm Cortex-M4 STM32G4 STM32G4x3; ki_fp_filters: LQFP*14x14mm*P0.4mm*; Footprint: Package_QFP:LQFP-128_14x14mm_P0.4mm; Datasheet: https://www.st.com/resource/en/datasheet/stm32g473qc.pdf; Description_: STMicroelectronics Arm Cortex-M4 MCU, 256KB flash, 128KB RAM, 170 MHz, 1.71-3.6V, 107 GPIO, LQFP128
pins: 1 PE2, 2 PE3, 3 PE4, 4 PE5, 5 PE6, 6 VBAT, 7 PC13, 8 PC14, 9 PC15, 10 PF3, 11 PF4, 12 VSS, 13 VDD, 14 PF5, 15 PF7, 16 PF8, 17 PF9, 18 PF10, 19 PF0, 20 PF1, 21 PG10, 22 PC0, 23 PC1, 24 PC2, 25 PC3, 26 PF2, 27 PA0, 28 PA1, 29 PA2, 30 VSS, 31 VDD, 32 PA3, 33 PA4, 34 PA5, 35 PA6, 36 PA7, 37 PC4, 38 PC5, 39 PB0, 40 PB1, 41 PB2, 42 VSSA, 43 VREF+, 44 VREF_+, 45 VDDA, 46 VSS, 47 VDD, 48 PF11, 49 PF12, 50 PF13, 51 PF14, 52 PF15, 53 PE7, 54 PE8, 55 PE9, 56 PE10, 57 PE11, 58 PE12, 59 PE13, 60 PE14, 61 PE15, 62 PB10, 63 VSS, 64 VDD, 65 PB11, 66 PB12, 67 PB13, 68 PB14, 69 PB15, 70 PD8, 71 PD9, 72 PD10, 73 PD11, 74 PD12, 75 PD13, 76 PD14, 77 PD15, 78 VSS, 79 VDD, 80 PC6, 81 PC7, 82 PG0, 83 PG1, 84 PG2, 85 PG3, 86 PG4, 87 PC8, 88 PC9, 89 PA8, 90 PA9, 91 PA10, 92 PA11, 93 PA12, 94 VSS, 95 VDD, 96 PA13, 97 PF6, 98 PA14, 99 PA15, 100 PC10, 101 PC11, 102 PC12, 103 PG5, 104 PG6, 105 PG7, 106 PG8, 107 PG9, 108 PD0, 109 PD1, 110 VSS, 111 VDD, 112 PD2, 113 PD3, 114 PD4, 115 PD5, 116 PD6, 117 PD7, 118 PB3, 119 PB4, 120 PB5, 121 PB6, 122 PB7, 123 PB8, 124 PB9, 125 PE0, 126 PE1, 127 VSS, 128 VDD

## STM32G473QETx
designator *  value STM32G473QETx  Reference: U
STMicroelectronics Arm Cortex-M4 MCU, 512KB flash, 128KB RAM, 170 MHz, 1.71-3.6V, 107 GPIO, LQFP128; ki_keywords: Arm Cortex-M4 STM32G4 STM32G4x3; ki_fp_filters: LQFP*14x14mm*P0.4mm*; Footprint: Package_QFP:LQFP-128_14x14mm_P0.4mm; Datasheet: https://www.st.com/resource/en/datasheet/stm32g473qe.pdf; Description_: STMicroelectronics Arm Cortex-M4 MCU, 512KB flash, 128KB RAM, 170 MHz, 1.71-3.6V, 107 GPIO, LQFP128
pins: 1 PE2, 2 PE3, 3 PE4, 4 PE5, 5 PE6, 6 VBAT, 7 PC13, 8 PC14, 9 PC15, 10 PF3, 11 PF4, 12 VSS, 13 VDD, 14 PF5, 15 PF7, 16 PF8, 17 PF9, 18 PF10, 19 PF0, 20 PF1, 21 PG10, 22 PC0, 23 PC1, 24 PC2, 25 PC3, 26 PF2, 27 PA0, 28 PA1, 29 PA2, 30 VSS, 31 VDD, 32 PA3, 33 PA4, 34 PA5, 35 PA6, 36 PA7, 37 PC4, 38 PC5, 39 PB0, 40 PB1, 41 PB2, 42 VSSA, 43 VREF+, 44 VREF_+, 45 VDDA, 46 VSS, 47 VDD, 48 PF11, 49 PF12, 50 PF13, 51 PF14, 52 PF15, 53 PE7, 54 PE8, 55 PE9, 56 PE10, 57 PE11, 58 PE12, 59 PE13, 60 PE14, 61 PE15, 62 PB10, 63 VSS, 64 VDD, 65 PB11, 66 PB12, 67 PB13, 68 PB14, 69 PB15, 70 PD8, 71 PD9, 72 PD10, 73 PD11, 74 PD12, 75 PD13, 76 PD14, 77 PD15, 78 VSS, 79 VDD, 80 PC6, 81 PC7, 82 PG0, 83 PG1, 84 PG2, 85 PG3, 86 PG4, 87 PC8, 88 PC9, 89 PA8, 90 PA9, 91 PA10, 92 PA11, 93 PA12, 94 VSS, 95 VDD, 96 PA13, 97 PF6, 98 PA14, 99 PA15, 100 PC10, 101 PC11, 102 PC12, 103 PG5, 104 PG6, 105 PG7, 106 PG8, 107 PG9, 108 PD0, 109 PD1, 110 VSS, 111 VDD, 112 PD2, 113 PD3, 114 PD4, 115 PD5, 116 PD6, 117 PD7, 118 PB3, 119 PB4, 120 PB5, 121 PB6, 122 PB7, 123 PB8, 124 PB9, 125 PE0, 126 PE1, 127 VSS, 128 VDD

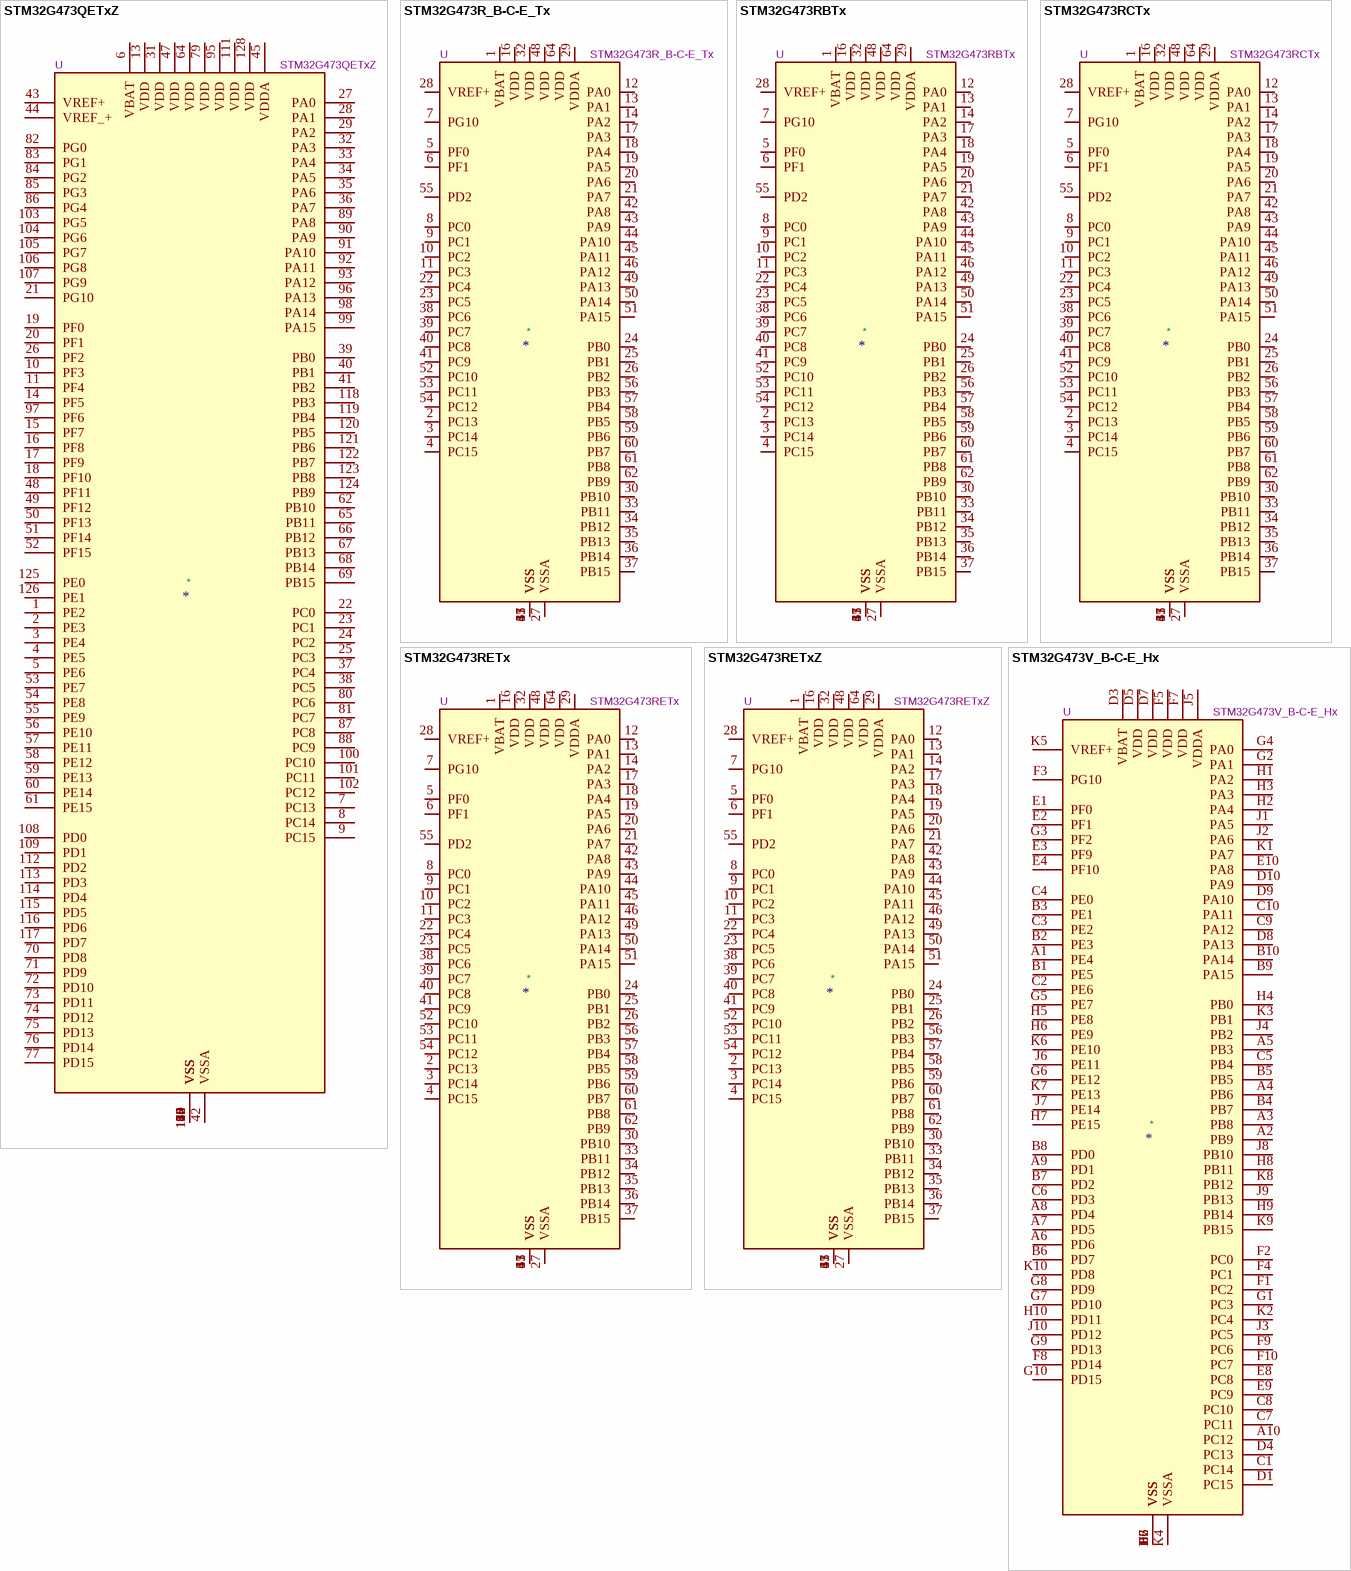
[diagram p9: symbols STM32G473QETxZ to STM32G473V_B-C-E_Hx]

## STM32G473QETxZ
designator *  value STM32G473QETxZ  Reference: U
STMicroelectronics Arm Cortex-M4 MCU, 512KB flash, 128KB RAM, 170 MHz, 1.71-3.6V, 107 GPIO, LQFP128; ki_keywords: Arm Cortex-M4 STM32G4 STM32G4x3; ki_fp_filters: LQFP*14x14mm*P0.4mm*; Footprint: Package_QFP:LQFP-128_14x14mm_P0.4mm; Datasheet: https://www.st.com/resource/en/datasheet/stm32g473qe.pdf; Description_: STMicroelectronics Arm Cortex-M4 MCU, 512KB flash, 128KB RAM, 170 MHz, 1.71-3.6V, 107 GPIO, LQFP128
pins: 1 PE2, 2 PE3, 3 PE4, 4 PE5, 5 PE6, 6 VBAT, 7 PC13, 8 PC14, 9 PC15, 10 PF3, 11 PF4, 12 VSS, 13 VDD, 14 PF5, 15 PF7, 16 PF8, 17 PF9, 18 PF10, 19 PF0, 20 PF1, 21 PG10, 22 PC0, 23 PC1, 24 PC2, 25 PC3, 26 PF2, 27 PA0, 28 PA1, 29 PA2, 30 VSS, 31 VDD, 32 PA3, 33 PA4, 34 PA5, 35 PA6, 36 PA7, 37 PC4, 38 PC5, 39 PB0, 40 PB1, 41 PB2, 42 VSSA, 43 VREF+, 44 VREF_+, 45 VDDA, 46 VSS, 47 VDD, 48 PF11, 49 PF12, 50 PF13, 51 PF14, 52 PF15, 53 PE7, 54 PE8, 55 PE9, 56 PE10, 57 PE11, 58 PE12, 59 PE13, 60 PE14, 61 PE15, 62 PB10, 63 VSS, 64 VDD, 65 PB11, 66 PB12, 67 PB13, 68 PB14, 69 PB15, 70 PD8, 71 PD9, 72 PD10, 73 PD11, 74 PD12, 75 PD13, 76 PD14, 77 PD15, 78 VSS, 79 VDD, 80 PC6, 81 PC7, 82 PG0, 83 PG1, 84 PG2, 85 PG3, 86 PG4, 87 PC8, 88 PC9, 89 PA8, 90 PA9, 91 PA10, 92 PA11, 93 PA12, 94 VSS, 95 VDD, 96 PA13, 97 PF6, 98 PA14, 99 PA15, 100 PC10, 101 PC11, 102 PC12, 103 PG5, 104 PG6, 105 PG7, 106 PG8, 107 PG9, 108 PD0, 109 PD1, 110 VSS, 111 VDD, 112 PD2, 113 PD3, 114 PD4, 115 PD5, 116 PD6, 117 PD7, 118 PB3, 119 PB4, 120 PB5, 121 PB6, 122 PB7, 123 PB8, 124 PB9, 125 PE0, 126 PE1, 127 VSS, 128 VDD

## STM32G473R_B-C-E_Tx
designator *  value STM32G473R_B-C-E_Tx  Reference: U
STMicroelectronics Arm Cortex-M4 MCU, 128-512KB flash, 128KB RAM, 170 MHz, 1.71-3.6V, 52 GPIO, LQFP64; ki_keywords: Arm Cortex-M4 STM32G4 STM32G4x3; ki_fp_filters: LQFP*10x10mm*P0.5mm*; Footprint: Package_QFP:LQFP-64_10x10mm_P0.5mm; Datasheet: https://www.st.com/resource/en/datasheet/stm32g473rb.pdf; Description_: STMicroelectronics Arm Cortex-M4 MCU, 128-512KB flash, 128KB RAM, 170 MHz, 1.71-3.6V, 52 GPIO, LQFP64
pins: 1 VBAT, 2 PC13, 3 PC14, 4 PC15, 5 PF0, 6 PF1, 7 PG10, 8 PC0, 9 PC1, 10 PC2, 11 PC3, 12 PA0, 13 PA1, 14 PA2, 15 VSS, 16 VDD, 17 PA3, 18 PA4, 19 PA5, 20 PA6, 21 PA7, 22 PC4, 23 PC5, 24 PB0, 25 PB1, 26 PB2, 27 VSSA, 28 VREF+, 29 VDDA, 30 PB10, 31 VSS, 32 VDD, 33 PB11, 34 PB12, 35 PB13, 36 PB14, 37 PB15, 38 PC6, 39 PC7, 40 PC8, 41 PC9, 42 PA8, 43 PA9, 44 PA10, 45 PA11, 46 PA12, 47 VSS, 48 VDD, 49 PA13, 50 PA14, 51 PA15, 52 PC10, 53 PC11, 54 PC12, 55 PD2, 56 PB3, 57 PB4, 58 PB5, 59 PB6, 60 PB7, 61 PB8, 62 PB9, 63 VSS, 64 VDD

## STM32G473RBTx
designator *  value STM32G473RBTx  Reference: U
STMicroelectronics Arm Cortex-M4 MCU, 128KB flash, 128KB RAM, 170 MHz, 1.71-3.6V, 52 GPIO, LQFP64; ki_keywords: Arm Cortex-M4 STM32G4 STM32G4x3; ki_fp_filters: LQFP*10x10mm*P0.5mm*; Footprint: Package_QFP:LQFP-64_10x10mm_P0.5mm; Datasheet: https://www.st.com/resource/en/datasheet/stm32g473rb.pdf; Description_: STMicroelectronics Arm Cortex-M4 MCU, 128KB flash, 128KB RAM, 170 MHz, 1.71-3.6V, 52 GPIO, LQFP64
pins: 1 VBAT, 2 PC13, 3 PC14, 4 PC15, 5 PF0, 6 PF1, 7 PG10, 8 PC0, 9 PC1, 10 PC2, 11 PC3, 12 PA0, 13 PA1, 14 PA2, 15 VSS, 16 VDD, 17 PA3, 18 PA4, 19 PA5, 20 PA6, 21 PA7, 22 PC4, 23 PC5, 24 PB0, 25 PB1, 26 PB2, 27 VSSA, 28 VREF+, 29 VDDA, 30 PB10, 31 VSS, 32 VDD, 33 PB11, 34 PB12, 35 PB13, 36 PB14, 37 PB15, 38 PC6, 39 PC7, 40 PC8, 41 PC9, 42 PA8, 43 PA9, 44 PA10, 45 PA11, 46 PA12, 47 VSS, 48 VDD, 49 PA13, 50 PA14, 51 PA15, 52 PC10, 53 PC11, 54 PC12, 55 PD2, 56 PB3, 57 PB4, 58 PB5, 59 PB6, 60 PB7, 61 PB8, 62 PB9, 63 VSS, 64 VDD

## STM32G473RCTx
designator *  value STM32G473RCTx  Reference: U
STMicroelectronics Arm Cortex-M4 MCU, 256KB flash, 128KB RAM, 170 MHz, 1.71-3.6V, 52 GPIO, LQFP64; ki_keywords: Arm Cortex-M4 STM32G4 STM32G4x3; ki_fp_filters: LQFP*10x10mm*P0.5mm*; Footprint: Package_QFP:LQFP-64_10x10mm_P0.5mm; Datasheet: https://www.st.com/resource/en/datasheet/stm32g473rc.pdf; Description_: STMicroelectronics Arm Cortex-M4 MCU, 256KB flash, 128KB RAM, 170 MHz, 1.71-3.6V, 52 GPIO, LQFP64
pins: 1 VBAT, 2 PC13, 3 PC14, 4 PC15, 5 PF0, 6 PF1, 7 PG10, 8 PC0, 9 PC1, 10 PC2, 11 PC3, 12 PA0, 13 PA1, 14 PA2, 15 VSS, 16 VDD, 17 PA3, 18 PA4, 19 PA5, 20 PA6, 21 PA7, 22 PC4, 23 PC5, 24 PB0, 25 PB1, 26 PB2, 27 VSSA, 28 VREF+, 29 VDDA, 30 PB10, 31 VSS, 32 VDD, 33 PB11, 34 PB12, 35 PB13, 36 PB14, 37 PB15, 38 PC6, 39 PC7, 40 PC8, 41 PC9, 42 PA8, 43 PA9, 44 PA10, 45 PA11, 46 PA12, 47 VSS, 48 VDD, 49 PA13, 50 PA14, 51 PA15, 52 PC10, 53 PC11, 54 PC12, 55 PD2, 56 PB3, 57 PB4, 58 PB5, 59 PB6, 60 PB7, 61 PB8, 62 PB9, 63 VSS, 64 VDD

## STM32G473RETx
designator *  value STM32G473RETx  Reference: U
STMicroelectronics Arm Cortex-M4 MCU, 512KB flash, 128KB RAM, 170 MHz, 1.71-3.6V, 52 GPIO, LQFP64; ki_keywords: Arm Cortex-M4 STM32G4 STM32G4x3; ki_fp_filters: LQFP*10x10mm*P0.5mm*; Footprint: Package_QFP:LQFP-64_10x10mm_P0.5mm; Datasheet: https://www.st.com/resource/en/datasheet/stm32g473re.pdf; Description_: STMicroelectronics Arm Cortex-M4 MCU, 512KB flash, 128KB RAM, 170 MHz, 1.71-3.6V, 52 GPIO, LQFP64
pins: 1 VBAT, 2 PC13, 3 PC14, 4 PC15, 5 PF0, 6 PF1, 7 PG10, 8 PC0, 9 PC1, 10 PC2, 11 PC3, 12 PA0, 13 PA1, 14 PA2, 15 VSS, 16 VDD, 17 PA3, 18 PA4, 19 PA5, 20 PA6, 21 PA7, 22 PC4, 23 PC5, 24 PB0, 25 PB1, 26 PB2, 27 VSSA, 28 VREF+, 29 VDDA, 30 PB10, 31 VSS, 32 VDD, 33 PB11, 34 PB12, 35 PB13, 36 PB14, 37 PB15, 38 PC6, 39 PC7, 40 PC8, 41 PC9, 42 PA8, 43 PA9, 44 PA10, 45 PA11, 46 PA12, 47 VSS, 48 VDD, 49 PA13, 50 PA14, 51 PA15, 52 PC10, 53 PC11, 54 PC12, 55 PD2, 56 PB3, 57 PB4, 58 PB5, 59 PB6, 60 PB7, 61 PB8, 62 PB9, 63 VSS, 64 VDD

## STM32G473RETxZ
designator *  value STM32G473RETxZ  Reference: U
STMicroelectronics Arm Cortex-M4 MCU, 512KB flash, 128KB RAM, 170 MHz, 1.71-3.6V, 52 GPIO, LQFP64; ki_keywords: Arm Cortex-M4 STM32G4 STM32G4x3; ki_fp_filters: LQFP*10x10mm*P0.5mm*; Footprint: Package_QFP:LQFP-64_10x10mm_P0.5mm; Datasheet: https://www.st.com/resource/en/datasheet/stm32g473re.pdf; Description_: STMicroelectronics Arm Cortex-M4 MCU, 512KB flash, 128KB RAM, 170 MHz, 1.71-3.6V, 52 GPIO, LQFP64
pins: 1 VBAT, 2 PC13, 3 PC14, 4 PC15, 5 PF0, 6 PF1, 7 PG10, 8 PC0, 9 PC1, 10 PC2, 11 PC3, 12 PA0, 13 PA1, 14 PA2, 15 VSS, 16 VDD, 17 PA3, 18 PA4, 19 PA5, 20 PA6, 21 PA7, 22 PC4, 23 PC5, 24 PB0, 25 PB1, 26 PB2, 27 VSSA, 28 VREF+, 29 VDDA, 30 PB10, 31 VSS, 32 VDD, 33 PB11, 34 PB12, 35 PB13, 36 PB14, 37 PB15, 38 PC6, 39 PC7, 40 PC8, 41 PC9, 42 PA8, 43 PA9, 44 PA10, 45 PA11, 46 PA12, 47 VSS, 48 VDD, 49 PA13, 50 PA14, 51 PA15, 52 PC10, 53 PC11, 54 PC12, 55 PD2, 56 PB3, 57 PB4, 58 PB5, 59 PB6, 60 PB7, 61 PB8, 62 PB9, 63 VSS, 64 VDD

## STM32G473V_B-C-E_Hx
designator *  value STM32G473V_B-C-E_Hx  Reference: U
STMicroelectronics Arm Cortex-M4 MCU, 128-512KB flash, 128KB RAM, 170 MHz, 1.71-3.6V, 86 GPIO, TFBGA100; ki_keywords: Arm Cortex-M4 STM32G4 STM32G4x3; ki_fp_filters: TFBGA*8x8mm*Layout10x10*P0.8mm*; Footprint: Package_BGA:TFBGA-100_8x8mm_Layout10x10_P0.8mm; Datasheet: https://www.st.com/resource/en/datasheet/stm32g473vb.pdf; Description_: STMicroelectronics Arm Cortex-M4 MCU, 128-512KB flash, 128KB RAM, 170 MHz, 1.71-3.6V, 86 GPIO, TFBGA100
pins: A1 PE4, A2 PB9, A3 PB8, A4 PB6, A5 PB3, A6 PD6, A7 PD5, A8 PD4, A9 PD1, A10 PC12, B1 PE5, B2 PE3, B3 PE1, B4 PB7, B5 PB5, B6 PD7, B7 PD2, B8 PD0, B9 PA15, B10 PA14, C1 PC14, C2 PE6, C3 PE2, C4 PE0, C5 PB4, C6 PD3, C7 PC11, C8 PC10, C9 PA12, C10 PA11, D1 PC15, D2 VSS, D3 VBAT, D4 PC13, D5 VDD, D6 VSS, D7 VDD, D8 PA13, D9 PA10, D10 PA9, E1 PF0, E2 PF1, E3 PF9, E4 PF10, E5 VSS, E6 VSS, E7 VSS, E8 PC8, E9 PC9, E10 PA8, F1 PC2, F2 PC0, F3 PG10, F4 PC1, F5 VDD, F6 VSS, F7 VDD, F8 PD14, F9 PC6, F10 PC7, G1 PC3, G2 PA1, G3 PF2, G4 PA0, G5 PE7, G6 PE12, G7 PD10, G8 PD9, G9 PD13, G10 PD15, H1 PA2, H2 PA4, H3 PA3, H4 PB0, H5 PE8, H6 PE9, H7 PE15, H8 PB11, H9 PB14, H10 PD11, J1 PA5, J2 PA6, J3 PC5, J4 PB2, J5 VDDA, J6 PE11, J7 PE14, J8 PB10, J9 PB13, J10 PD12, K1 PA7, K2 PC4, K3 PB1, K4 VSSA, K5 VREF+, K6 PE10, K7 PE13, K8 PB12, K9 PB15, K10 PD8

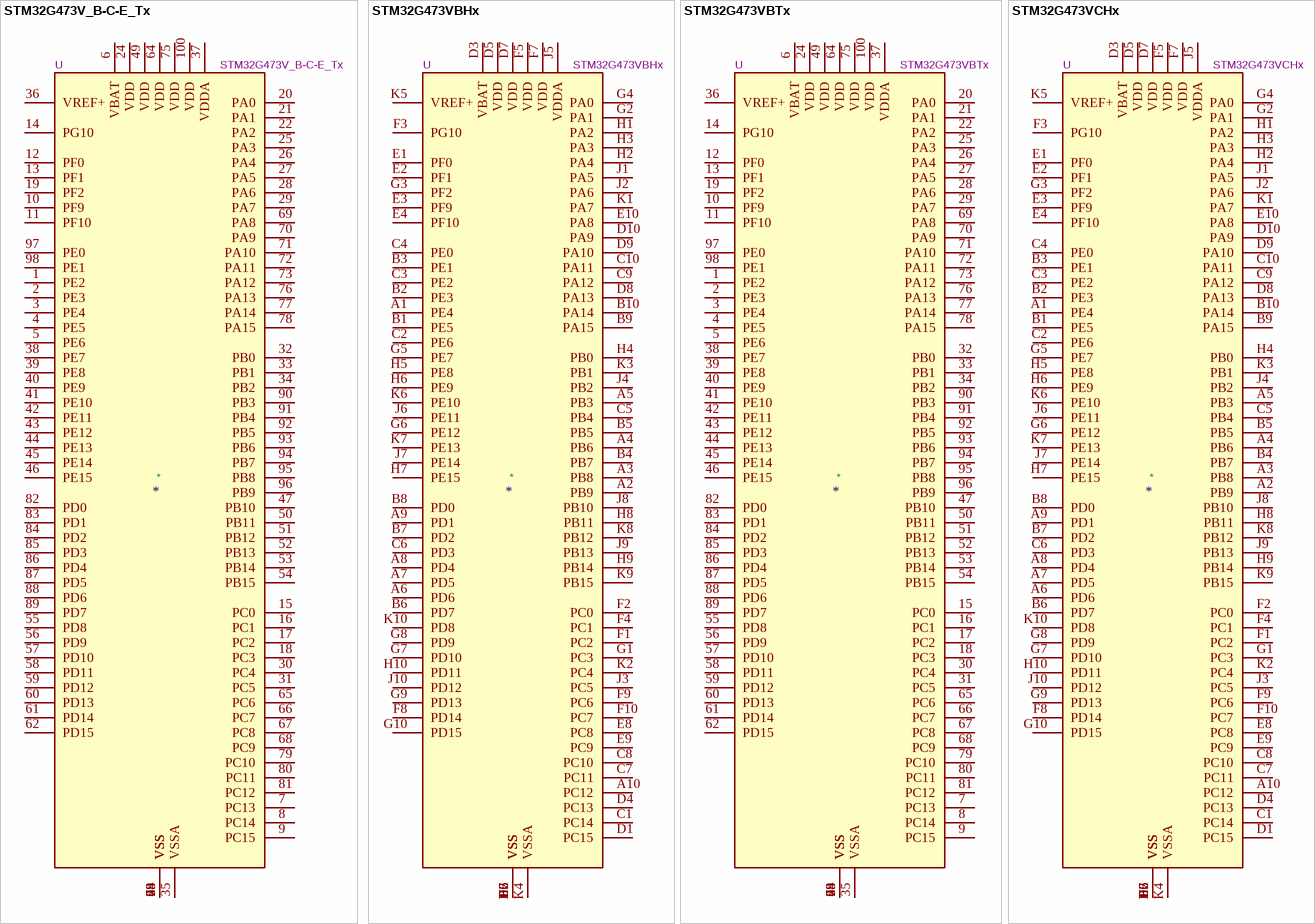
[diagram p10: symbols STM32G473V_B-C-E_Tx to STM32G473VCHx]

## STM32G473V_B-C-E_Tx
designator *  value STM32G473V_B-C-E_Tx  Reference: U
STMicroelectronics Arm Cortex-M4 MCU, 128-512KB flash, 128KB RAM, 170 MHz, 1.71-3.6V, 86 GPIO, LQFP100; ki_keywords: Arm Cortex-M4 STM32G4 STM32G4x3; ki_fp_filters: LQFP*14x14mm*P0.5mm*; Footprint: Package_QFP:LQFP-100_14x14mm_P0.5mm; Datasheet: https://www.st.com/resource/en/datasheet/stm32g473vb.pdf; Description_: STMicroelectronics Arm Cortex-M4 MCU, 128-512KB flash, 128KB RAM, 170 MHz, 1.71-3.6V, 86 GPIO, LQFP100
pins: 1 PE2, 2 PE3, 3 PE4, 4 PE5, 5 PE6, 6 VBAT, 7 PC13, 8 PC14, 9 PC15, 10 PF9, 11 PF10, 12 PF0, 13 PF1, 14 PG10, 15 PC0, 16 PC1, 17 PC2, 18 PC3, 19 PF2, 20 PA0, 21 PA1, 22 PA2, 23 VSS, 24 VDD, 25 PA3, 26 PA4, 27 PA5, 28 PA6, 29 PA7, 30 PC4, 31 PC5, 32 PB0, 33 PB1, 34 PB2, 35 VSSA, 36 VREF+, 37 VDDA, 38 PE7, 39 PE8, 40 PE9, 41 PE10, 42 PE11, 43 PE12, 44 PE13, 45 PE14, 46 PE15, 47 PB10, 48 VSS, 49 VDD, 50 PB11, 51 PB12, 52 PB13, 53 PB14, 54 PB15, 55 PD8, 56 PD9, 57 PD10, 58 PD11, 59 PD12, 60 PD13, 61 PD14, 62 PD15, 63 VSS, 64 VDD, 65 PC6, 66 PC7, 67 PC8, 68 PC9, 69 PA8, 70 PA9, 71 PA10, 72 PA11, 73 PA12, 74 VSS, 75 VDD, 76 PA13, 77 PA14, 78 PA15, 79 PC10, 80 PC11, 81 PC12, 82 PD0, 83 PD1, 84 PD2, 85 PD3, 86 PD4, 87 PD5, 88 PD6, 89 PD7, 90 PB3, 91 PB4, 92 PB5, 93 PB6, 94 PB7, 95 PB8, 96 PB9, 97 PE0, 98 PE1, 99 VSS, 100 VDD

## STM32G473VBHx
designator *  value STM32G473VBHx  Reference: U
STMicroelectronics Arm Cortex-M4 MCU, 128KB flash, 128KB RAM, 170 MHz, 1.71-3.6V, 86 GPIO, TFBGA100; ki_keywords: Arm Cortex-M4 STM32G4 STM32G4x3; ki_fp_filters: TFBGA*8x8mm*Layout10x10*P0.8mm*; Footprint: Package_BGA:TFBGA-100_8x8mm_Layout10x10_P0.8mm; Datasheet: https://www.st.com/resource/en/datasheet/stm32g473vb.pdf; Description_: STMicroelectronics Arm Cortex-M4 MCU, 128KB flash, 128KB RAM, 170 MHz, 1.71-3.6V, 86 GPIO, TFBGA100
pins: A1 PE4, A2 PB9, A3 PB8, A4 PB6, A5 PB3, A6 PD6, A7 PD5, A8 PD4, A9 PD1, A10 PC12, B1 PE5, B2 PE3, B3 PE1, B4 PB7, B5 PB5, B6 PD7, B7 PD2, B8 PD0, B9 PA15, B10 PA14, C1 PC14, C2 PE6, C3 PE2, C4 PE0, C5 PB4, C6 PD3, C7 PC11, C8 PC10, C9 PA12, C10 PA11, D1 PC15, D2 VSS, D3 VBAT, D4 PC13, D5 VDD, D6 VSS, D7 VDD, D8 PA13, D9 PA10, D10 PA9, E1 PF0, E2 PF1, E3 PF9, E4 PF10, E5 VSS, E6 VSS, E7 VSS, E8 PC8, E9 PC9, E10 PA8, F1 PC2, F2 PC0, F3 PG10, F4 PC1, F5 VDD, F6 VSS, F7 VDD, F8 PD14, F9 PC6, F10 PC7, G1 PC3, G2 PA1, G3 PF2, G4 PA0, G5 PE7, G6 PE12, G7 PD10, G8 PD9, G9 PD13, G10 PD15, H1 PA2, H2 PA4, H3 PA3, H4 PB0, H5 PE8, H6 PE9, H7 PE15, H8 PB11, H9 PB14, H10 PD11, J1 PA5, J2 PA6, J3 PC5, J4 PB2, J5 VDDA, J6 PE11, J7 PE14, J8 PB10, J9 PB13, J10 PD12, K1 PA7, K2 PC4, K3 PB1, K4 VSSA, K5 VREF+, K6 PE10, K7 PE13, K8 PB12, K9 PB15, K10 PD8

## STM32G473VBTx
designator *  value STM32G473VBTx  Reference: U
STMicroelectronics Arm Cortex-M4 MCU, 128KB flash, 128KB RAM, 170 MHz, 1.71-3.6V, 86 GPIO, LQFP100; ki_keywords: Arm Cortex-M4 STM32G4 STM32G4x3; ki_fp_filters: LQFP*14x14mm*P0.5mm*; Footprint: Package_QFP:LQFP-100_14x14mm_P0.5mm; Datasheet: https://www.st.com/resource/en/datasheet/stm32g473vb.pdf; Description_: STMicroelectronics Arm Cortex-M4 MCU, 128KB flash, 128KB RAM, 170 MHz, 1.71-3.6V, 86 GPIO, LQFP100
pins: 1 PE2, 2 PE3, 3 PE4, 4 PE5, 5 PE6, 6 VBAT, 7 PC13, 8 PC14, 9 PC15, 10 PF9, 11 PF10, 12 PF0, 13 PF1, 14 PG10, 15 PC0, 16 PC1, 17 PC2, 18 PC3, 19 PF2, 20 PA0, 21 PA1, 22 PA2, 23 VSS, 24 VDD, 25 PA3, 26 PA4, 27 PA5, 28 PA6, 29 PA7, 30 PC4, 31 PC5, 32 PB0, 33 PB1, 34 PB2, 35 VSSA, 36 VREF+, 37 VDDA, 38 PE7, 39 PE8, 40 PE9, 41 PE10, 42 PE11, 43 PE12, 44 PE13, 45 PE14, 46 PE15, 47 PB10, 48 VSS, 49 VDD, 50 PB11, 51 PB12, 52 PB13, 53 PB14, 54 PB15, 55 PD8, 56 PD9, 57 PD10, 58 PD11, 59 PD12, 60 PD13, 61 PD14, 62 PD15, 63 VSS, 64 VDD, 65 PC6, 66 PC7, 67 PC8, 68 PC9, 69 PA8, 70 PA9, 71 PA10, 72 PA11, 73 PA12, 74 VSS, 75 VDD, 76 PA13, 77 PA14, 78 PA15, 79 PC10, 80 PC11, 81 PC12, 82 PD0, 83 PD1, 84 PD2, 85 PD3, 86 PD4, 87 PD5, 88 PD6, 89 PD7, 90 PB3, 91 PB4, 92 PB5, 93 PB6, 94 PB7, 95 PB8, 96 PB9, 97 PE0, 98 PE1, 99 VSS, 100 VDD

## STM32G473VCHx
designator *  value STM32G473VCHx  Reference: U
STMicroelectronics Arm Cortex-M4 MCU, 256KB flash, 128KB RAM, 170 MHz, 1.71-3.6V, 86 GPIO, TFBGA100; ki_keywords: Arm Cortex-M4 STM32G4 STM32G4x3; ki_fp_filters: TFBGA*8x8mm*Layout10x10*P0.8mm*; Footprint: Package_BGA:TFBGA-100_8x8mm_Layout10x10_P0.8mm; Datasheet: https://www.st.com/resource/en/datasheet/stm32g473vc.pdf; Description_: STMicroelectronics Arm Cortex-M4 MCU, 256KB flash, 128KB RAM, 170 MHz, 1.71-3.6V, 86 GPIO, TFBGA100
pins: A1 PE4, A2 PB9, A3 PB8, A4 PB6, A5 PB3, A6 PD6, A7 PD5, A8 PD4, A9 PD1, A10 PC12, B1 PE5, B2 PE3, B3 PE1, B4 PB7, B5 PB5, B6 PD7, B7 PD2, B8 PD0, B9 PA15, B10 PA14, C1 PC14, C2 PE6, C3 PE2, C4 PE0, C5 PB4, C6 PD3, C7 PC11, C8 PC10, C9 PA12, C10 PA11, D1 PC15, D2 VSS, D3 VBAT, D4 PC13, D5 VDD, D6 VSS, D7 VDD, D8 PA13, D9 PA10, D10 PA9, E1 PF0, E2 PF1, E3 PF9, E4 PF10, E5 VSS, E6 VSS, E7 VSS, E8 PC8, E9 PC9, E10 PA8, F1 PC2, F2 PC0, F3 PG10, F4 PC1, F5 VDD, F6 VSS, F7 VDD, F8 PD14, F9 PC6, F10 PC7, G1 PC3, G2 PA1, G3 PF2, G4 PA0, G5 PE7, G6 PE12, G7 PD10, G8 PD9, G9 PD13, G10 PD15, H1 PA2, H2 PA4, H3 PA3, H4 PB0, H5 PE8, H6 PE9, H7 PE15, H8 PB11, H9 PB14, H10 PD11, J1 PA5, J2 PA6, J3 PC5, J4 PB2, J5 VDDA, J6 PE11, J7 PE14, J8 PB10, J9 PB13, J10 PD12, K1 PA7, K2 PC4, K3 PB1, K4 VSSA, K5 VREF+, K6 PE10, K7 PE13, K8 PB12, K9 PB15, K10 PD8

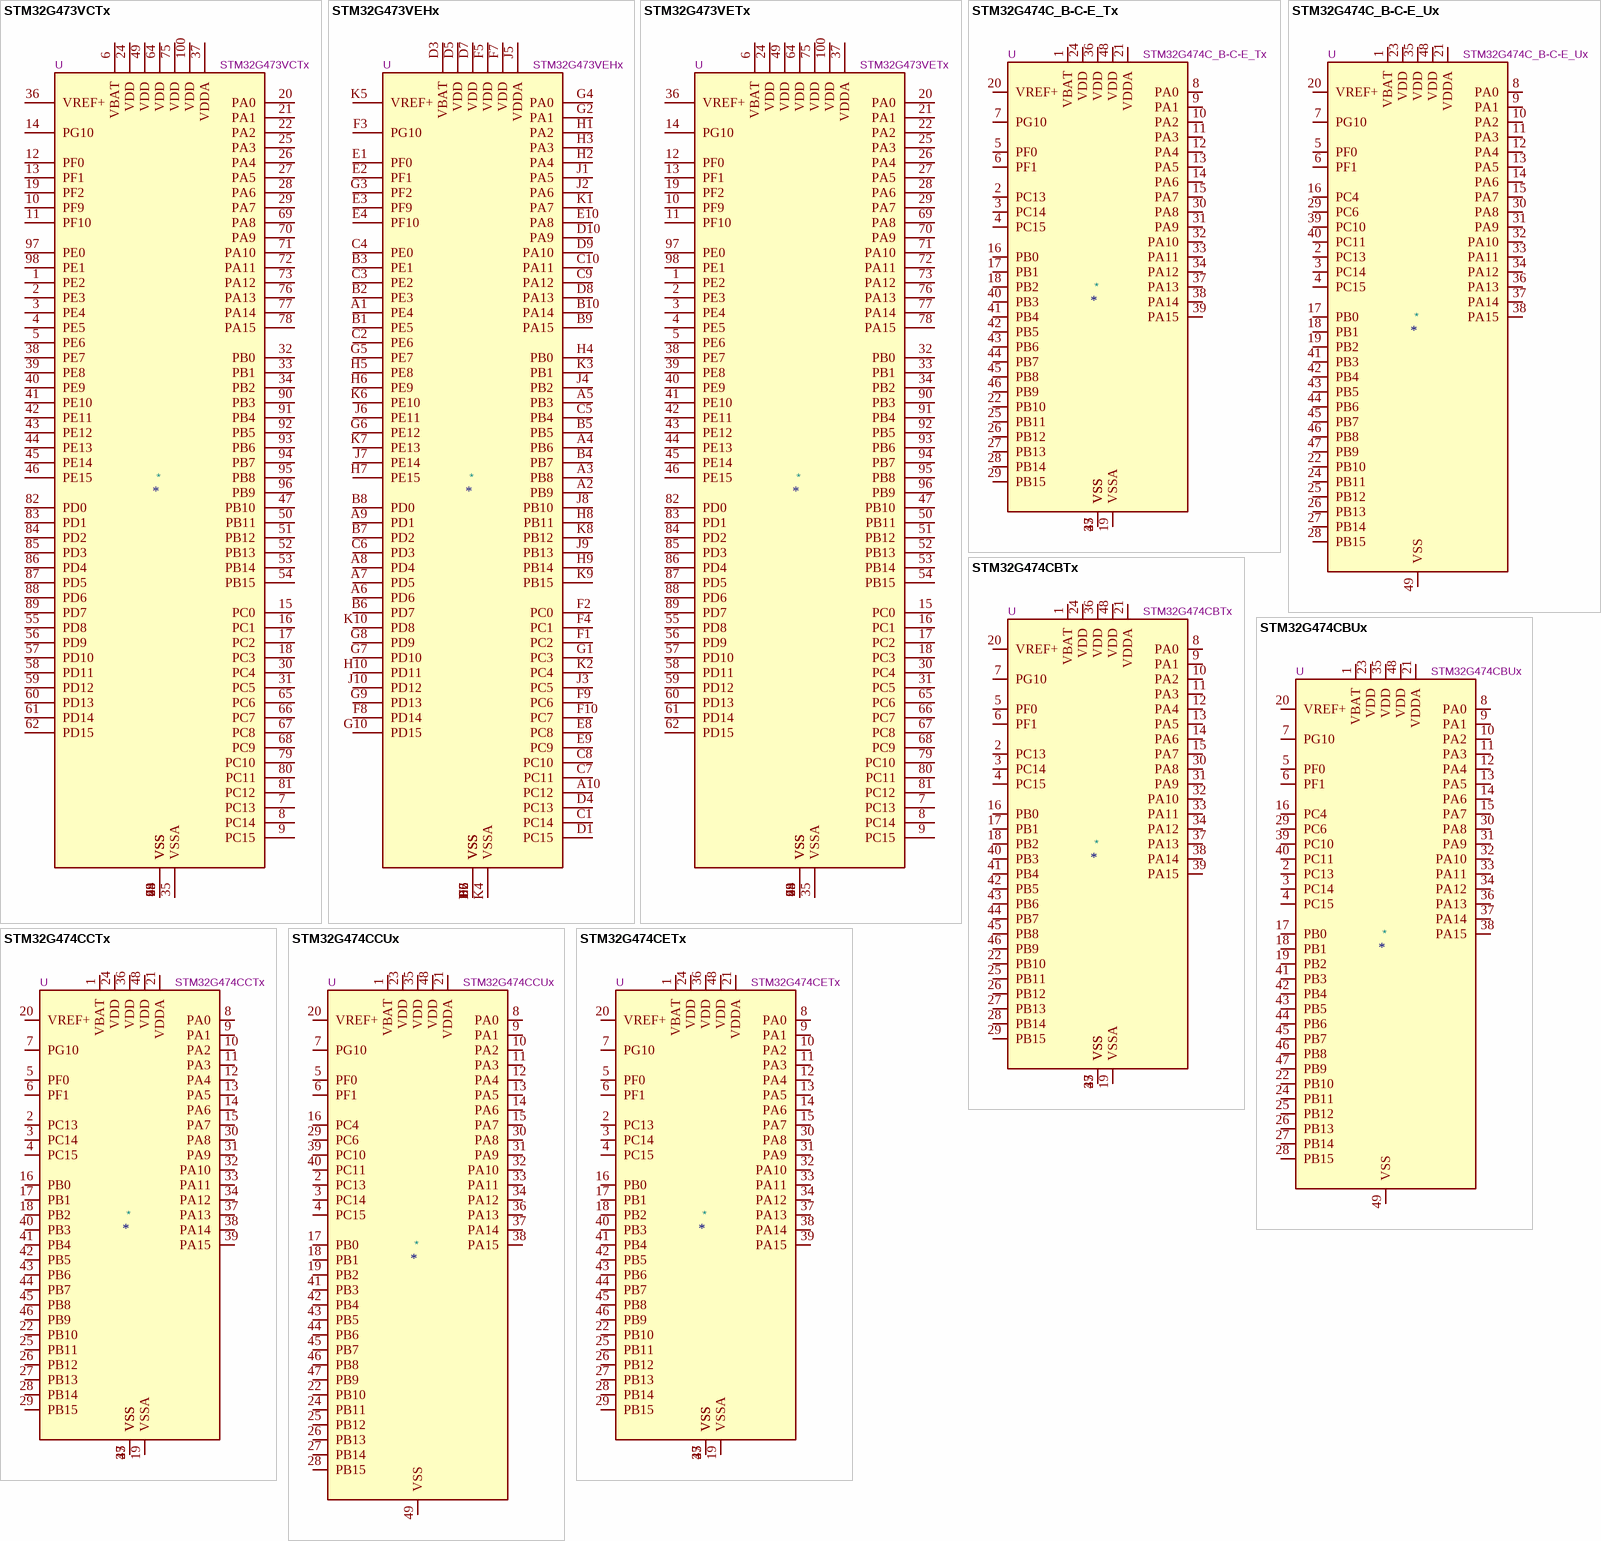
[diagram p11: symbols STM32G473VCTx to STM32G474CETx]

## STM32G473VCTx
designator *  value STM32G473VCTx  Reference: U
STMicroelectronics Arm Cortex-M4 MCU, 256KB flash, 128KB RAM, 170 MHz, 1.71-3.6V, 86 GPIO, LQFP100; ki_keywords: Arm Cortex-M4 STM32G4 STM32G4x3; ki_fp_filters: LQFP*14x14mm*P0.5mm*; Footprint: Package_QFP:LQFP-100_14x14mm_P0.5mm; Datasheet: https://www.st.com/resource/en/datasheet/stm32g473vc.pdf; Description_: STMicroelectronics Arm Cortex-M4 MCU, 256KB flash, 128KB RAM, 170 MHz, 1.71-3.6V, 86 GPIO, LQFP100
pins: 1 PE2, 2 PE3, 3 PE4, 4 PE5, 5 PE6, 6 VBAT, 7 PC13, 8 PC14, 9 PC15, 10 PF9, 11 PF10, 12 PF0, 13 PF1, 14 PG10, 15 PC0, 16 PC1, 17 PC2, 18 PC3, 19 PF2, 20 PA0, 21 PA1, 22 PA2, 23 VSS, 24 VDD, 25 PA3, 26 PA4, 27 PA5, 28 PA6, 29 PA7, 30 PC4, 31 PC5, 32 PB0, 33 PB1, 34 PB2, 35 VSSA, 36 VREF+, 37 VDDA, 38 PE7, 39 PE8, 40 PE9, 41 PE10, 42 PE11, 43 PE12, 44 PE13, 45 PE14, 46 PE15, 47 PB10, 48 VSS, 49 VDD, 50 PB11, 51 PB12, 52 PB13, 53 PB14, 54 PB15, 55 PD8, 56 PD9, 57 PD10, 58 PD11, 59 PD12, 60 PD13, 61 PD14, 62 PD15, 63 VSS, 64 VDD, 65 PC6, 66 PC7, 67 PC8, 68 PC9, 69 PA8, 70 PA9, 71 PA10, 72 PA11, 73 PA12, 74 VSS, 75 VDD, 76 PA13, 77 PA14, 78 PA15, 79 PC10, 80 PC11, 81 PC12, 82 PD0, 83 PD1, 84 PD2, 85 PD3, 86 PD4, 87 PD5, 88 PD6, 89 PD7, 90 PB3, 91 PB4, 92 PB5, 93 PB6, 94 PB7, 95 PB8, 96 PB9, 97 PE0, 98 PE1, 99 VSS, 100 VDD

## STM32G473VEHx
designator *  value STM32G473VEHx  Reference: U
STMicroelectronics Arm Cortex-M4 MCU, 512KB flash, 128KB RAM, 170 MHz, 1.71-3.6V, 86 GPIO, TFBGA100; ki_keywords: Arm Cortex-M4 STM32G4 STM32G4x3; ki_fp_filters: TFBGA*8x8mm*Layout10x10*P0.8mm*; Footprint: Package_BGA:TFBGA-100_8x8mm_Layout10x10_P0.8mm; Datasheet: https://www.st.com/resource/en/datasheet/stm32g473ve.pdf; Description_: STMicroelectronics Arm Cortex-M4 MCU, 512KB flash, 128KB RAM, 170 MHz, 1.71-3.6V, 86 GPIO, TFBGA100
pins: A1 PE4, A2 PB9, A3 PB8, A4 PB6, A5 PB3, A6 PD6, A7 PD5, A8 PD4, A9 PD1, A10 PC12, B1 PE5, B2 PE3, B3 PE1, B4 PB7, B5 PB5, B6 PD7, B7 PD2, B8 PD0, B9 PA15, B10 PA14, C1 PC14, C2 PE6, C3 PE2, C4 PE0, C5 PB4, C6 PD3, C7 PC11, C8 PC10, C9 PA12, C10 PA11, D1 PC15, D2 VSS, D3 VBAT, D4 PC13, D5 VDD, D6 VSS, D7 VDD, D8 PA13, D9 PA10, D10 PA9, E1 PF0, E2 PF1, E3 PF9, E4 PF10, E5 VSS, E6 VSS, E7 VSS, E8 PC8, E9 PC9, E10 PA8, F1 PC2, F2 PC0, F3 PG10, F4 PC1, F5 VDD, F6 VSS, F7 VDD, F8 PD14, F9 PC6, F10 PC7, G1 PC3, G2 PA1, G3 PF2, G4 PA0, G5 PE7, G6 PE12, G7 PD10, G8 PD9, G9 PD13, G10 PD15, H1 PA2, H2 PA4, H3 PA3, H4 PB0, H5 PE8, H6 PE9, H7 PE15, H8 PB11, H9 PB14, H10 PD11, J1 PA5, J2 PA6, J3 PC5, J4 PB2, J5 VDDA, J6 PE11, J7 PE14, J8 PB10, J9 PB13, J10 PD12, K1 PA7, K2 PC4, K3 PB1, K4 VSSA, K5 VREF+, K6 PE10, K7 PE13, K8 PB12, K9 PB15, K10 PD8

## STM32G473VETx
designator *  value STM32G473VETx  Reference: U
STMicroelectronics Arm Cortex-M4 MCU, 512KB flash, 128KB RAM, 170 MHz, 1.71-3.6V, 86 GPIO, LQFP100; ki_keywords: Arm Cortex-M4 STM32G4 STM32G4x3; ki_fp_filters: LQFP*14x14mm*P0.5mm*; Footprint: Package_QFP:LQFP-100_14x14mm_P0.5mm; Datasheet: https://www.st.com/resource/en/datasheet/stm32g473ve.pdf; Description_: STMicroelectronics Arm Cortex-M4 MCU, 512KB flash, 128KB RAM, 170 MHz, 1.71-3.6V, 86 GPIO, LQFP100
pins: 1 PE2, 2 PE3, 3 PE4, 4 PE5, 5 PE6, 6 VBAT, 7 PC13, 8 PC14, 9 PC15, 10 PF9, 11 PF10, 12 PF0, 13 PF1, 14 PG10, 15 PC0, 16 PC1, 17 PC2, 18 PC3, 19 PF2, 20 PA0, 21 PA1, 22 PA2, 23 VSS, 24 VDD, 25 PA3, 26 PA4, 27 PA5, 28 PA6, 29 PA7, 30 PC4, 31 PC5, 32 PB0, 33 PB1, 34 PB2, 35 VSSA, 36 VREF+, 37 VDDA, 38 PE7, 39 PE8, 40 PE9, 41 PE10, 42 PE11, 43 PE12, 44 PE13, 45 PE14, 46 PE15, 47 PB10, 48 VSS, 49 VDD, 50 PB11, 51 PB12, 52 PB13, 53 PB14, 54 PB15, 55 PD8, 56 PD9, 57 PD10, 58 PD11, 59 PD12, 60 PD13, 61 PD14, 62 PD15, 63 VSS, 64 VDD, 65 PC6, 66 PC7, 67 PC8, 68 PC9, 69 PA8, 70 PA9, 71 PA10, 72 PA11, 73 PA12, 74 VSS, 75 VDD, 76 PA13, 77 PA14, 78 PA15, 79 PC10, 80 PC11, 81 PC12, 82 PD0, 83 PD1, 84 PD2, 85 PD3, 86 PD4, 87 PD5, 88 PD6, 89 PD7, 90 PB3, 91 PB4, 92 PB5, 93 PB6, 94 PB7, 95 PB8, 96 PB9, 97 PE0, 98 PE1, 99 VSS, 100 VDD

## STM32G474C_B-C-E_Tx
designator *  value STM32G474C_B-C-E_Tx  Reference: U
STMicroelectronics Arm Cortex-M4 MCU, 128-512KB flash, 128KB RAM, 170 MHz, 1.71-3.6V, 38 GPIO, LQFP48; ki_keywords: Arm Cortex-M4 STM32G4 STM32G4x4; ki_fp_filters: LQFP*7x7mm*P0.5mm*; Footprint: Package_QFP:LQFP-48_7x7mm_P0.5mm; Datasheet: https://www.st.com/resource/en/datasheet/stm32g474cb.pdf; Description_: STMicroelectronics Arm Cortex-M4 MCU, 128-512KB flash, 128KB RAM, 170 MHz, 1.71-3.6V, 38 GPIO, LQFP48
pins: 1 VBAT, 2 PC13, 3 PC14, 4 PC15, 5 PF0, 6 PF1, 7 PG10, 8 PA0, 9 PA1, 10 PA2, 11 PA3, 12 PA4, 13 PA5, 14 PA6, 15 PA7, 16 PB0, 17 PB1, 18 PB2, 19 VSSA, 20 VREF+, 21 VDDA, 22 PB10, 23 VSS, 24 VDD, 25 PB11, 26 PB12, 27 PB13, 28 PB14, 29 PB15, 30 PA8, 31 PA9, 32 PA10, 33 PA11, 34 PA12, 35 VSS, 36 VDD, 37 PA13, 38 PA14, 39 PA15, 40 PB3, 41 PB4, 42 PB5, 43 PB6, 44 PB7, 45 PB8, 46 PB9, 47 VSS, 48 VDD

## STM32G474C_B-C-E_Ux
designator *  value STM32G474C_B-C-E_Ux  Reference: U
STMicroelectronics Arm Cortex-M4 MCU, 128-512KB flash, 128KB RAM, 170 MHz, 1.71-3.6V, 42 GPIO, UFQFPN48; ki_keywords: Arm Cortex-M4 STM32G4 STM32G4x4; ki_fp_filters: QFN*1EP*7x7mm*P0.5mm*; Footprint: Package_DFN_QFN:QFN-48-1EP_7x7mm_P0.5mm_EP5.6x5.6mm; Datasheet: https://www.st.com/resource/en/datasheet/stm32g474cb.pdf; Description_: STMicroelectronics Arm Cortex-M4 MCU, 128-512KB flash, 128KB RAM, 170 MHz, 1.71-3.6V, 42 GPIO, UFQFPN48
pins: 1 VBAT, 2 PC13, 3 PC14, 4 PC15, 5 PF0, 6 PF1, 7 PG10, 8 PA0, 9 PA1, 10 PA2, 11 PA3, 12 PA4, 13 PA5, 14 PA6, 15 PA7, 16 PC4, 17 PB0, 18 PB1, 19 PB2, 20 VREF+, 21 VDDA, 22 PB10, 23 VDD, 24 PB11, 25 PB12, 26 PB13, 27 PB14, 28 PB15, 29 PC6, 30 PA8, 31 PA9, 32 PA10, 33 PA11, 34 PA12, 35 VDD, 36 PA13, 37 PA14, 38 PA15, 39 PC10, 40 PC11, 41 PB3, 42 PB4, 43 PB5, 44 PB6, 45 PB7, 46 PB8, 47 PB9, 48 VDD, 49 VSS

## STM32G474CBTx
designator *  value STM32G474CBTx  Reference: U
STMicroelectronics Arm Cortex-M4 MCU, 128KB flash, 128KB RAM, 170 MHz, 1.71-3.6V, 38 GPIO, LQFP48; ki_keywords: Arm Cortex-M4 STM32G4 STM32G4x4; ki_fp_filters: LQFP*7x7mm*P0.5mm*; Footprint: Package_QFP:LQFP-48_7x7mm_P0.5mm; Datasheet: https://www.st.com/resource/en/datasheet/stm32g474cb.pdf; Description_: STMicroelectronics Arm Cortex-M4 MCU, 128KB flash, 128KB RAM, 170 MHz, 1.71-3.6V, 38 GPIO, LQFP48
pins: 1 VBAT, 2 PC13, 3 PC14, 4 PC15, 5 PF0, 6 PF1, 7 PG10, 8 PA0, 9 PA1, 10 PA2, 11 PA3, 12 PA4, 13 PA5, 14 PA6, 15 PA7, 16 PB0, 17 PB1, 18 PB2, 19 VSSA, 20 VREF+, 21 VDDA, 22 PB10, 23 VSS, 24 VDD, 25 PB11, 26 PB12, 27 PB13, 28 PB14, 29 PB15, 30 PA8, 31 PA9, 32 PA10, 33 PA11, 34 PA12, 35 VSS, 36 VDD, 37 PA13, 38 PA14, 39 PA15, 40 PB3, 41 PB4, 42 PB5, 43 PB6, 44 PB7, 45 PB8, 46 PB9, 47 VSS, 48 VDD